# Altium integrated library Lattice ORCA Series 3.IntLib: 93 symbols (part 3 of 14)
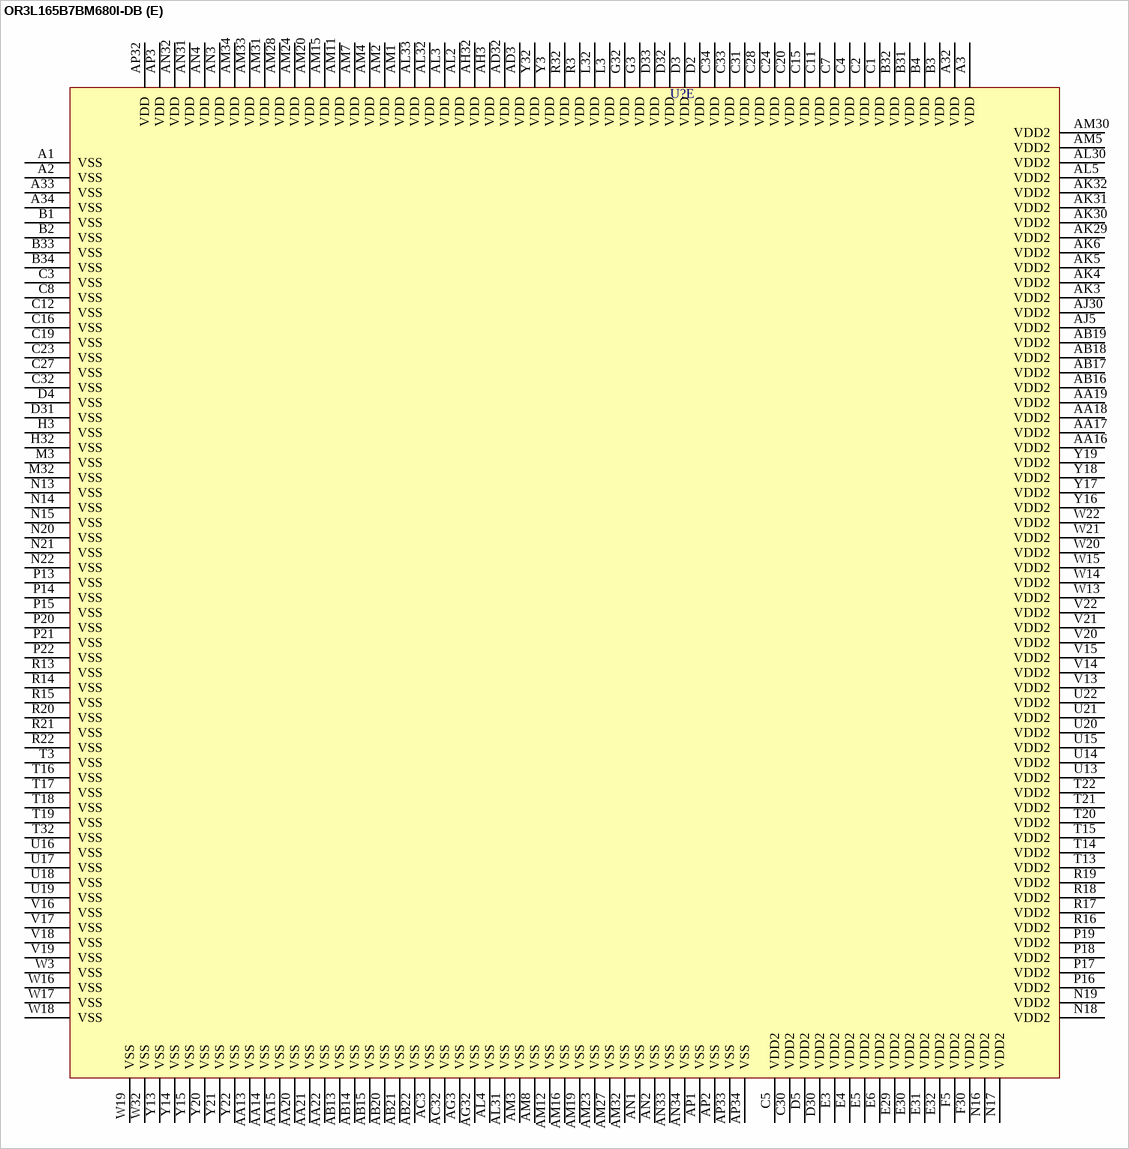
[diagram p138: symbol OR3L165B7BM680I-DB]

## OR3L165B7BM680I-DB
designator U?
ORCA Series 3L FPGA: 2.5 V, Industrial Grade, 516 I/Os.; Published: 21-May-2003; LatestRevisionDate: 13-Apr-2006; LatestRevisionNote: IPC-7351 Footprint Added.; DatasheetVersion: Mar-2002; PackageVersion: pkg_32, Aug-2005; PackageReference: fpBGA680; Publisher: Altium Limited; PackageDescription: 680-Ball Fine Pitch Ball Grid Array (fpBGA680); ComponentLink1Description: Manufacturer Link; ComponentLink1URL: http://www.latticesemi.com/products/fpga/orca/orca3/index.cfm; ComponentLink2Description: Datasheet; ComponentLink2URL: http://www.latticesemi.com/account/_download.cfm?AMID=3971; ComponentLink3Description: Lattice Login; ComponentLink3URL: http://www.latticesemi.com/account/login.cfm
footprint fpBGA680 (BGA, 680-Leads, Body 35x35mm, Pitch 1mm)
3D model OR3L165B-fpBGA680 (680-Ball Fine Pitch Ball Grid Array (fpBGA680))
part A pins: AA1 PL21B (io), AA2 PL21A (io), AA3 PL22D (io), AA4 PL22C (io), AA5 PL22B (io), AB1 PL22A/A11/~{MPI_IRQ} (io), AB2 PL23D/A12 (io), AB3 PL23C (io), AB4 PL23A (io), AB5 PL24D (io), AC1 PL24C (io), AC2 PL24B/A13 (io), AC4 PL24A (io), AC5 PL25D (io), AD1 PL25C (io), AD2 PL25B (io), AD4 PL25A (io), AD5 PL26D (io), AE1 PL26C (io), AE2 PL26B (io), AE3 PL26A (io), AE4 PL27D (io), AE5 PL27C (io), AF1 PL27B (io), AF2 PL27A/A14 (io), AF3 PL28D (io), AF4 PL28C (io), AF5 PL28B (io), AG1 PL28A (io), AG2 PL29C (io), AG4 PL29B (io), AG5 PL29A (io), AH1 PL30D (io), AH2 PL30C (io), AH4 PL30B (io), AH5 PL30A/SECKLL (io), AJ1 PL31D (io), AJ2 PL31C (io), AJ3 PL31A (io), AJ4 PL32C (io), AK1 PL32B (io), AK2 PL32A/A15 (io), D1 PL1D (io), E1 PL1B (io), E2 PL1C (io), F1 PL3D/A0/~{MPI_BE0} (io), F2 PL2A (io), F3 PL2D (io), F4 PL1A (io), G1 PL4D (io), G2 PL3A (io), G4 PL3B (io), G5 PL3C (io), H1 PL5C (io), H2 PL4A (io), H4 PL4B (io), H5 PL4C (io), J1 PL6B (io), J2 PL6C (io), J3 PL6D (io), J4 PL5A (io), J5 PL5B (io), K1 PL7A (io), K2 PL7B (io), K3 PL7C (io), K4 PL7D (io), K5 PL6A (io), L1 PL8A (io), L2 PL8B (io), L4 PL8C (io), L5 PL8D/A1/~{MPI_BE1} (io), M1 PL9A/A2 (io), M2 PL9B (io), M4 PL9C (io), M5 PL9D (io), N1 PL11C (io), N2 PL10A/A3 (io), N3 PL10B (io), N4 PL10C (io), N5 PL10D (io), P1 PL12B (io), P2 PL12C (io), P3 PL12D (io), P4 PL11A (io), P5 PL11B (io), R1 PL13B (io), R2 PL13C (io), R4 PL13D/A5 (io), R5 PL12A/A4 (io), T1 PL14A/A6 (io), T2 PL14B (io), T4 PL14C (io), T5 PL14D (io), U1 PL16A/A7/MPI_CLK (io), U2 PL16C (io), U3 PL15A (io), U4 PL15C (io), U5 ECKL (in), V1 PL17D (io), V2 PL18C (io), V3 PL18A/A8/MPI_RW (io), V4 PL19D/A9/~{MPI_ACK} (io), V5 PL19C (io), W1 PL19B (io), W2 PL19A (io), W4 PL20D (io), W5 PL20C (io), Y1 PL20B (io), Y2 PL20A/A10/~{MPI_BI} (io), Y4 PL21D (io), Y5 PL21C (io)
part B pins: AK7 PB3B (io), AK8 PB4C (io), AK9 PB5C (io), AK10 PB6D (io), AK11 PB8A (io), AK12 PB9A (io), AK13 PB10A (io), AK14 PB11C (io), AK15 PB12D (io), AK16 PB13D (io), AK17 PB14D (io), AK18 PB18D (io), AK19 PB20A (io), AK20 PB21A/HDC (io), AK21 PB22B (io), AK22 PB23D (io), AK23 PB24D (io), AK24 PB25D (io), AK25 PB27A/~{INIT} (io), AK26 PB28C (io), AK27 PB29C (io), AK28 PB30C (io), AL6 PB1D (io), AL7 PB3C (io), AL8 PB4D (io), AL9 PB5D/A17 (io), AL10 PB7A (io), AL11 PB8B (io), AL12 PB9B (io), AL13 PB10B (io), AL14 PB11D (io), AL15 PB13A (io), AL16 PB14A (io), AL17 PB15B (io), AL18 PB18B (io), AL19 PB19D (io), AL20 PB20D (io), AL21 PB22A (io), AL22 PB23C (io), AL23 PB24C (io), AL24 PB25C (io), AL25 PB26D (io), AL26 PB28B (io), AL27 PB29B (io), AL28 PB30B (io), AL29 PB32A (io), AM6 PB2A (io), AM9 PB6A (io), AM10 PB7B (io), AM13 PB10C (io), AM14 PB12A (io), AM17 PB15D (io), AM18 PB17D (io), AM21 PB21D (io), AM22 PB23B (io), AM25 PB26C (io), AM26 PB27D (io), AM29 PB31D (io), AN5 PB1B (io), AN6 PB2D (io), AN7 PB4A (io), AN8 PB5A (io), AN9 PB6B (io), AN10 PB7C (io), AN11 PB8C (io), AN12 PB9C (io), AN13 PB10D (io), AN14 PB12B (io), AN15 PB13B (io), AN16 PB14B (io), AN17 PB16A (io), AN18 ECKB (in), AN19 PB19C (io), AN20 PB20C (io), AN21 PB21C (io), AN22 PB23A/~{LDC} (io), AN23 PB24B (io), AN24 PB25B (io), AN25 PB26B (io), AN26 PB27C (io), AN27 PB29A (io), AN28 PB30A (io), AN29 PB31A (io), AN30 PB32D (io), AP4 PB1A/A16 (io), AP5 PB1C (io), AP6 PB3A (io), AP7 PB4B (io), AP8 PB5B (io), AP9 PB6C (io), AP10 PB7D (io), AP11 PB8D (io), AP12 PB9D (io), AP13 PB11B (io), AP14 PB12C (io), AP15 PB13C (io), AP16 PB14C (io), AP17 PB16B (io), AP18 PB16D (io), AP19 PB19B (io), AP20 PB20B (io), AP21 PB21B (io), AP22 PB22C (io), AP23 PB24A (io), AP24 PB25A (io), AP25 PB26A (io), AP26 PB27B (io), AP27 PB28D (io), AP28 PB29D (io), AP29 PB30D (io), AP30 PB32C (io)
part C pins: AA30 PR22C (io), AA31 PR22D (io), AA32 PR21A (io), AA33 PR21B (io), AA34 PR21C (io), AB30 PR23B (io), AB31 PR23C (io), AB32 PR23D (io), AB33 PR22A/M2 (io), AB34 PR22B (io), AC30 PR24A (io), AC31 PR24B (io), AC33 PR24C (io), AC34 PR23A (io), AD30 PR25A (io), AD31 PR25B (io), AD33 PR25C (io), AD34 PR25D/M1 (io), AE30 PR27D (io), AE31 PR26A (io), AE32 PR26B (io), AE33 PR26C (io), AE34 PR26D (io), AF30 PR28C (io), AF31 PR28D (io), AF32 PR27A (io), AF33 PR27B (io), AF34 PR27C (io), AG30 PR29C (io), AG31 PR29D (io), AG33 PR28A (io), AG34 PR28B (io), AH30 PR30C (io), AH31 PR30D (io), AH33 PR29A (io), AH34 PR29B (io), AJ31 PR32B (io), AJ32 PR31A (io), AJ33 PR31D (io), AJ34 PR30B (io), AK34 PR32A/M0 (io), E33 PR1D (io), E34 PR1B (io), F31 PR1A (io), F32 PR2D (io), F33 PR2B (io), F34 PR2A (io), G30 PR3D (io), G31 PR3C (io), G33 PR3B (io), G34 PR3A (io), H30 PR4D (io), H31 PR4C (io), H33 PR4B (io), H34 PR4A/~{WR} (io), J30 PR5D (io), J31 PR5C (io), J32 PR5B (io), J33 PR6D (io), J34 PR6C (io), K30 PR6B (io), K31 PR6A (io), K32 PR7D (io), K33 PR7C (io), K34 PR7B (io), L30 PR7A (io), L31 PR8D (io), L33 PR8C (io), L34 PR8B (io), M30 PR8A/~{RD}/~{MPI_STRB} (io), M31 PR9D (io), M33 PR9C (io), M34 PR9B (io), N30 PR9A (io), N31 PR10D (io), N32 PR10C (io), N33 PR10B (io), N34 PR10A/~{CS0} (io), P30 PR11C (io), P31 PR11B (io), P32 PR11A (io), P33 PR12D (io), P34 PR12C (io), R30 PR12B (io), R31 PR12A/CS1 (io), R33 PR13D (io), R34 PR13C (io), T30 PR13B (io), T31 PR13A (io), T33 PR14D (io), T34 PR14C (io), U30 PR14B (io), U31 PR15D (io), U32 PR15B (io), U33 PR16D (io), U34 ECKR (in), V30 PR18A (io), V31 PR18B (io), V32 PR18D (io), V33 PR17B (io), V34 PR17D (io), W30 PR20D (io), W31 PR19A (io), W33 PR19B (io), W34 PR19C (io), Y30 PR21D (io), Y31 PR20A/M3 (io), Y33 PR20B (io), Y34 PR20C (io)
part D pins: A4 RD_DATA/TDO (out), A5 PT1C (io), A6 PT2D (io), A7 PT3D (io), A8 PT4D (io), A9 PT6B (io), A10 PT7C (io), A11 PT8C (io), A12 PT9C (io), A13 PT11A/DOUT (io), A14 PT12B (io), A15 PT13B (io), A16 PT14B (io), A17 PT16D (io), A18 PT17A/D3 (io), A19 PT19B (io), A20 PT20B (io), A21 PT21B (io), A22 PT22D (io), A23 PT24A (io), A24 PT25A (io), A25 PT26A (io), A26 PT27C (io), A27 PT28D (io), A28 PT29D (io), A29 PT30D (io), A30 PT32A (io), A31 PT32D/SECKUR (io), AK33 ~{PRGM} (in), AL1 CCLK (io), AL34 ~{RESET} (in), AP31 DONE (io), B5 PT1A/TCK (io), B6 PT2C (io), B7 PT3C (io), B8 PT4C (io), B9 PT5D (io), B10 PT7B (io), B11 PT8B (io), B12 PT9B (io), B13 PT10C (io), B14 PT12A (io), B15 PT13A/D0/DIN (io), B16 PT14A (io), B17 PT16C (io), B18 PT17C (io), B19 PT19C (io), B20 PT20C (io), B21 PT21C (io), B22 PT23A (io), B23 PT24B (io), B24 PT25B (io), B25 PT26B (io), B26 PT27D/D7 (io), B27 PT29A (io), B28 PT30A/RDY/RCLK/MPI_ALE (io), B29 PT31A (io), B30 PT32C (io), C6 PT2A (io), C9 PT5C (io), C10 PT7A/TDI (io), C13 PT10B (io), C14 PT11D (io), C17 PT15A/D2 (io), C18 PT17D (io), C21 PT22A (io), C22 PT23B (io), C25 PT26C (io), C26 PT28A (io), C29 PT31B (io), D6 PT1D (io), D7 PT3B (io), D8 PT4B (io), D9 PT5B (io), D10 PT6D (io), D11 PT8A (io), D12 PT9A (io), D13 PT10A (io), D14 PT11C (io), D15 PT12D (io), D16 PT13D (io), D17 PT14D/D1 (io), D18 ECKT (in), D19 PT19D (io), D20 PT20D (io), D21 PT22B (io), D22 PT23C (io), D23 PT24C (io), D24 PT25C (io), D25 PT27A (io), D26 PT28B (io), D27 PT29B (io), D28 PT30B (io), D29 PT31D (io), D34 ~{RD_CFG} (in), E7 PT3A (io), E8 PT4A (io), E9 PT5A/TMS (io), E10 PT6C (io), E11 PT7D (io), E12 PT8D (io), E13 PT9D (io), E14 PT11B (io), E15 PT12C (io), E16 PT13C (io), E17 PT14C (io), E18 PT19A/D4 (io), E19 PT20A (io), E20 PT21A/D5 (io), E21 PT22C (io), E22 PT23D/D6 (io), E23 PT24D (io), E24 PT25D (io), E25 PT27B (io), E26 PT28C (io), E27 PT29C (io), E28 PT30C (io)
part E pins: A1 VSS (power), A2 VSS (power), A3 VDD (power), A32 VDD (power), A33 VSS (power), A34 VSS (power), AA13 VSS (power), AA14 VSS (power), AA15 VSS (power), AA16 VDD2 (power), AA17 VDD2 (power), AA18 VDD2 (power), AA19 VDD2 (power), AA20 VSS (power), AA21 VSS (power), AA22 VSS (power), AB13 VSS (power), AB14 VSS (power), AB15 VSS (power), AB16 VDD2 (power), AB17 VDD2 (power), AB18 VDD2 (power), AB19 VDD2 (power), AB20 VSS (power), AB21 VSS (power), AB22 VSS (power), AC3 VSS (power), AC32 VSS (power), AD3 VDD (power), AD32 VDD (power), AG3 VSS (power), AG32 VSS (power), AH3 VDD (power), AH32 VDD (power), AJ5 VDD2 (power), AJ30 VDD2 (power), AK3 VDD2 (power), AK4 VDD2 (power), AK5 VDD2 (power), AK6 VDD2 (power), AK29 VDD2 (power), AK30 VDD2 (power), AK31 VDD2 (power), AK32 VDD2 (power), AL2 VDD (power), AL3 VDD (power), AL4 VSS (power), AL5 VDD2 (power), AL30 VDD2 (power), AL31 VSS (power), AL32 VDD (power), AL33 VDD (power), AM1 VDD (power), AM2 VDD (power), AM3 VSS (power), AM4 VDD (power), AM5 VDD2 (power), AM7 VDD (power), AM8 VSS (power), AM11 VDD (power), AM12 VSS (power), AM15 VDD (power), AM16 VSS (power), AM19 VSS (power), AM20 VDD (power), AM23 VSS (power), AM24 VDD (power), AM27 VSS (power), AM28 VDD (power), AM30 VDD2 (power), AM31 VDD (power), AM32 VSS (power), AM33 VDD (power), AM34 VDD (power), AN1 VSS (power), AN2 VSS (power), AN3 VDD (power), AN4 VDD (power), AN31 VDD (power), AN32 VDD (power), AN33 VSS (power), AN34 VSS (power), AP1 VSS (power), AP2 VSS (power), AP3 VDD (power), AP32 VDD (power), AP33 VSS (power), AP34 VSS (power), B1 VSS (power), B2 VSS (power), B3 VDD (power), B4 VDD (power), B31 VDD (power), B32 VDD (power), B33 VSS (power), B34 VSS (power), C1 VDD (power), C2 VDD (power), C3 VSS (power), C4 VDD (power), C5 VDD2 (power), C7 VDD (power), C8 VSS (power), C11 VDD (power), C12 VSS (power), C15 VDD (power), C16 VSS (power), C19 VSS (power), C20 VDD (power), C23 VSS (power), C24 VDD (power), C27 VSS (power), C28 VDD (power), C30 VDD2 (power), C31 VDD (power), C32 VSS (power), C33 VDD (power), C34 VDD (power), D2 VDD (power), D3 VDD (power), D4 VSS (power), D5 VDD2 (power), D30 VDD2 (power), D31 VSS (power), D32 VDD (power), D33 VDD (power), E3 VDD2 (power), E4 VDD2 (power), E5 VDD2 (power), E6 VDD2 (power), E29 VDD2 (power), E30 VDD2 (power), E31 VDD2 (power), E32 VDD2 (power), F5 VDD2 (power), F30 VDD2 (power), G3 VDD (power), G32 VDD (power), H3 VSS (power), H32 VSS (power), L3 VDD (power), L32 VDD (power), M3 VSS (power), M32 VSS (power), N13 VSS (power), N14 VSS (power), N15 VSS (power), N16 VDD2 (power), N17 VDD2 (power), N18 VDD2 (power), N19 VDD2 (power), N20 VSS (power), N21 VSS (power), N22 VSS (power), P13 VSS (power), P14 VSS (power), P15 VSS (power), P16 VDD2 (power), P17 VDD2 (power), P18 VDD2 (power), P19 VDD2 (power), P20 VSS (power), P21 VSS (power), P22 VSS (power), R3 VDD (power), R13 VSS (power), R14 VSS (power), R15 VSS (power), R16 VDD2 (power), R17 VDD2 (power), R18 VDD2 (power), R19 VDD2 (power), R20 VSS (power), R21 VSS (power), R22 VSS (power), R32 VDD (power), T3 VSS (power), T13 VDD2 (power), T14 VDD2 (power), T15 VDD2 (power), T16 VSS (power), T17 VSS (power), T18 VSS (power), T19 VSS (power), T20 VDD2 (power), T21 VDD2 (power), T22 VDD2 (power), T32 VSS (power), U13 VDD2 (power), U14 VDD2 (power), U15 VDD2 (power), U16 VSS (power), U17 VSS (power), U18 VSS (power), U19 VSS (power), U20 VDD2 (power), U21 VDD2 (power), U22 VDD2 (power), V13 VDD2 (power), V14 VDD2 (power), V15 VDD2 (power), V16 VSS (power), V17 VSS (power), V18 VSS (power), V19 VSS (power), V20 VDD2 (power), V21 VDD2 (power), V22 VDD2 (power), W3 VSS (power), W13 VDD2 (power), W14 VDD2 (power), W15 VDD2 (power), W16 VSS (power), W17 VSS (power), W18 VSS (power), W19 VSS (power), W20 VDD2 (power), W21 VDD2 (power), W22 VDD2 (power), W32 VSS (power), Y3 VDD (power), Y13 VSS (power), Y14 VSS (power), Y15 VSS (power), Y16 VDD2 (power), Y17 VDD2 (power), Y18 VDD2 (power), Y19 VDD2 (power), Y20 VSS (power), Y21 VSS (power), Y22 VSS (power), Y32 VDD (power)

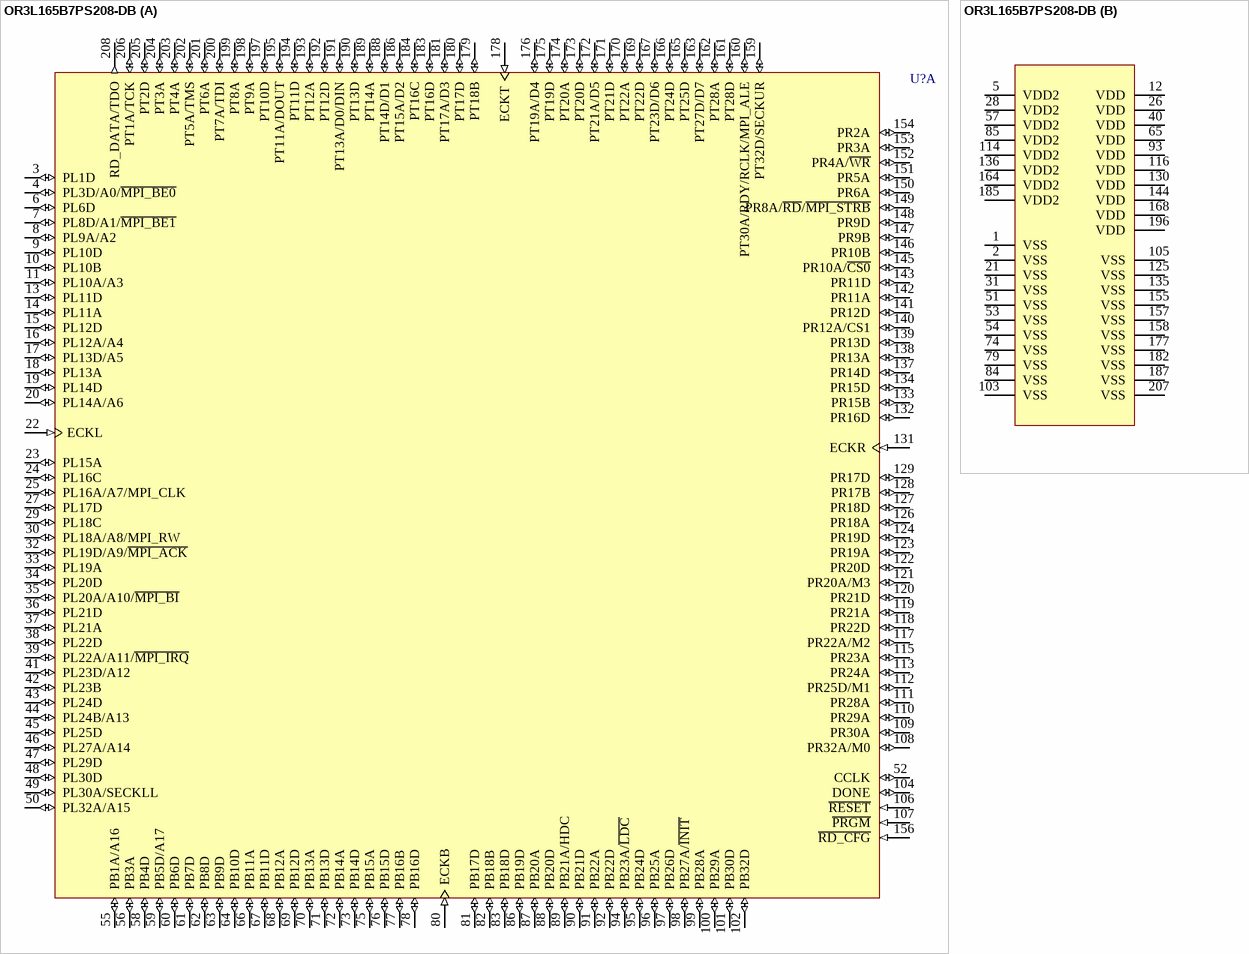
[diagram p26: symbol OR3L165B7PS208-DB]

## OR3L165B7PS208-DB
designator U?
ORCA Series 3L FPGA: 2.5 V, Commercial Grade, 516 I/Os.; Published: 21-May-2003; LatestRevisionDate: 13-Apr-2006; LatestRevisionNote: IPC-7351 Footprint Added.; DatasheetVersion: Mar-2002; PackageVersion: pkg_32, Aug-2005; PackageReference: PQFP208; Publisher: Altium Limited; PackageDescription: 208-Pin Plastic Quad Flat Pack (PQFP208); Code_JEDEC: MO-143-FAI; ComponentLink1Description: Manufacturer Link; ComponentLink1URL: http://www.latticesemi.com/products/fpga/orca/orca3/index.cfm; ComponentLink2Description: Datasheet; ComponentLink2URL: http://www.latticesemi.com/account/_download.cfm?AMID=3971; ComponentLink3Description: Lattice Login; ComponentLink3URL: http://www.latticesemi.com/account/login.cfm
footprint PQFP208_N (Shrink QFP, 208-Leads, Body 28x28mm, Pitch 0.5mm, IPC Medium Density)
footprint PQFP208_L (Shrink QFP, 208-Leads, Body 28x28mm, Pitch 0.5mm, IPC High Density)
footprint PQFP208_M (Shrink QFP, 208-Leads, Body 28x28mm, Pitch 0.5mm, IPC Low Density)
3D model OR3L165B-PQFP208 (208-Pin Plastic Quad Flat Pack (PQFP208))
part A pins: 3 PL1D (io), 4 PL3D/A0/~{MPI_BE0} (io), 6 PL6D (io), 7 PL8D/A1/~{MPI_BE1} (io), 8 PL9A/A2 (io), 9 PL10D (io), 10 PL10B (io), 11 PL10A/A3 (io), 13 PL11D (io), 14 PL11A (io), 15 PL12D (io), 16 PL12A/A4 (io), 17 PL13D/A5 (io), 18 PL13A (io), 19 PL14D (io), 20 PL14A/A6 (io), 22 ECKL (in), 23 PL15A (io), 24 PL16C (io), 25 PL16A/A7/MPI_CLK (io), 27 PL17D (io), 29 PL18C (io), 30 PL18A/A8/MPI_RW (io), 32 PL19D/A9/~{MPI_ACK} (io), 33 PL19A (io), 34 PL20D (io), 35 PL20A/A10/~{MPI_BI} (io), 36 PL21D (io), 37 PL21A (io), 38 PL22D (io), 39 PL22A/A11/~{MPI_IRQ} (io), 41 PL23D/A12 (io), 42 PL23B (io), 43 PL24D (io), 44 PL24B/A13 (io), 45 PL25D (io), 46 PL27A/A14 (io), 47 PL29D (io), 48 PL30D (io), 49 PL30A/SECKLL (io), 50 PL32A/A15 (io), 52 CCLK (io), 55 PB1A/A16 (io), 56 PB3A (io), 58 PB4D (io), 59 PB5D/A17 (io), 60 PB6D (io), 61 PB7D (io), 62 PB8D (io), 63 PB9D (io), 64 PB10D (io), 66 PB11A (io), 67 PB11D (io), 68 PB12A (io), 69 PB12D (io), 70 PB13A (io), 71 PB13D (io), 72 PB14A (io), 73 PB14D (io), 75 PB15A (io), 76 PB15D (io), 77 PB16B (io), 78 PB16D (io), 80 ECKB (in), 81 PB17D (io), 82 PB18B (io), 83 PB18D (io), 86 PB19D (io), 87 PB20A (io), 88 PB20D (io), 89 PB21A/HDC (io), 90 PB21D (io), 91 PB22A (io), 92 PB22D (io), 94 PB23A/~{LDC} (io), 95 PB24D (io), 96 PB25A (io), 97 PB26D (io), 98 PB27A/~{INIT} (io), 99 PB28A (io), 100 PB29A (io), 101 PB30D (io), 102 PB32D (io), 104 DONE (io), 106 ~{RESET} (in), 107 ~{PRGM} (in), 108 PR32A/M0 (io), 109 PR30A (io), 110 PR29A (io), 111 PR28A (io), 112 PR25D/M1 (io), 113 PR24A (io), 115 PR23A (io), 117 PR22A/M2 (io), 118 PR22D (io), 119 PR21A (io), 120 PR21D (io), 121 PR20A/M3 (io), 122 PR20D (io), 123 PR19A (io), 124 PR19D (io), 126 PR18A (io), 127 PR18D (io), 128 PR17B (io), 129 PR17D (io), 131 ECKR (in), 132 PR16D (io), 133 PR15B (io), 134 PR15D (io), 137 PR14D (io), 138 PR13A (io), 139 PR13D (io), 140 PR12A/CS1 (io), 141 PR12D (io), 142 PR11A (io), 143 PR11D (io), 145 PR10A/~{CS0} (io), 146 PR10B (io), 147 PR9B (io), 148 PR9D (io), 149 PR8A/~{RD}/~{MPI_STRB} (io), 150 PR6A (io), 151 PR5A (io), 152 PR4A/~{WR} (io), 153 PR3A (io), 154 PR2A (io), 156 ~{RD_CFG} (in), 159 PT32D/SECKUR (io), 160 PT30A/RDY/RCLK/MPI_ALE (io), 161 PT28D (io), 162 PT28A (io), 163 PT27D/D7 (io), 165 PT25D (io), 166 PT24D (io), 167 PT23D/D6 (io), 169 PT22D (io), 170 PT22A (io), 171 PT21D (io), 172 PT21A/D5 (io), 173 PT20D (io), 174 PT20A (io), 175 PT19D (io), 176 PT19A/D4 (io), 178 ECKT (in), 179 PT18B (io), 180 PT17D (io), 181 PT17A/D3 (io), 183 PT16D (io), 184 PT16C (io), 186 PT15A/D2 (io), 188 PT14D/D1 (io), 189 PT14A (io), 190 PT13D (io), 191 PT13A/D0/DIN (io), 192 PT12D (io), 193 PT12A (io), 194 PT11D (io), 195 PT11A/DOUT (io), 197 PT10D (io), 198 PT9A (io), 199 PT8A (io), 200 PT7A/TDI (io), 201 PT6A (io), 202 PT5A/TMS (io), 203 PT4A (io), 204 PT3A (io), 205 PT2D (io), 206 PT1A/TCK (io), 208 RD_DATA/TDO (out)
part B pins: 1 VSS (power), 2 VSS (power), 5 VDD2 (power), 12 VDD (power), 21 VSS (power), 26 VDD (power), 28 VDD2 (power), 31 VSS (power), 40 VDD (power), 51 VSS (power), 53 VSS (power), 54 VSS (power), 57 VDD2 (power), 65 VDD (power), 74 VSS (power), 79 VSS (power), 84 VSS (power), 85 VDD2 (power), 93 VDD (power), 103 VSS (power), 105 VSS (power), 114 VDD2 (power), 116 VDD (power), 125 VSS (power), 130 VDD (power), 135 VSS (power), 136 VDD2 (power), 144 VDD (power), 155 VSS (power), 157 VSS (power), 158 VSS (power), 164 VDD2 (power), 168 VDD (power), 177 VSS (power), 182 VSS (power), 185 VDD2 (power), 187 VSS (power), 196 VDD (power), 207 VSS (power)

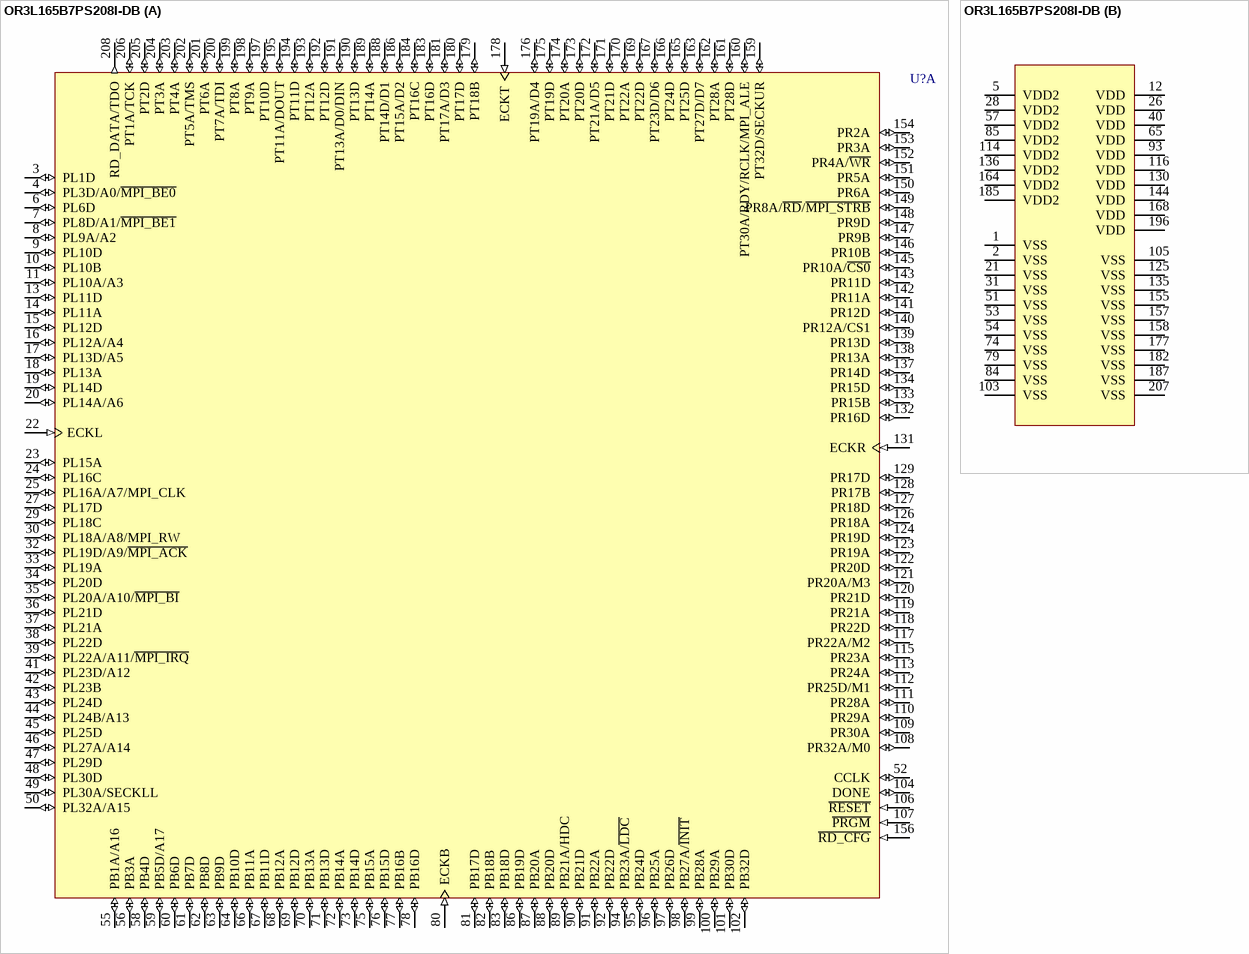
[diagram p27: symbol OR3L165B7PS208I-DB]

## OR3L165B7PS208I-DB
designator U?
ORCA Series 3L FPGA: 2.5 V, Industrial Grade, 516 I/Os.; Published: 21-May-2003; LatestRevisionDate: 13-Apr-2006; LatestRevisionNote: IPC-7351 Footprint Added.; DatasheetVersion: Mar-2002; PackageVersion: pkg_32, Aug-2005; PackageReference: PQFP208; Publisher: Altium Limited; PackageDescription: 208-Pin Plastic Quad Flat Pack (PQFP208); Code_JEDEC: MO-143-FAI; ComponentLink1Description: Manufacturer Link; ComponentLink1URL: http://www.latticesemi.com/products/fpga/orca/orca3/index.cfm; ComponentLink2Description: Datasheet; ComponentLink2URL: http://www.latticesemi.com/account/_download.cfm?AMID=3971; ComponentLink3Description: Lattice Login; ComponentLink3URL: http://www.latticesemi.com/account/login.cfm
footprint PQFP208_N (Shrink QFP, 208-Leads, Body 28x28mm, Pitch 0.5mm, IPC Medium Density)
footprint PQFP208_L (Shrink QFP, 208-Leads, Body 28x28mm, Pitch 0.5mm, IPC High Density)
footprint PQFP208_M (Shrink QFP, 208-Leads, Body 28x28mm, Pitch 0.5mm, IPC Low Density)
3D model OR3L165B-PQFP208 (208-Pin Plastic Quad Flat Pack (PQFP208))
part A pins: 3 PL1D (io), 4 PL3D/A0/~{MPI_BE0} (io), 6 PL6D (io), 7 PL8D/A1/~{MPI_BE1} (io), 8 PL9A/A2 (io), 9 PL10D (io), 10 PL10B (io), 11 PL10A/A3 (io), 13 PL11D (io), 14 PL11A (io), 15 PL12D (io), 16 PL12A/A4 (io), 17 PL13D/A5 (io), 18 PL13A (io), 19 PL14D (io), 20 PL14A/A6 (io), 22 ECKL (in), 23 PL15A (io), 24 PL16C (io), 25 PL16A/A7/MPI_CLK (io), 27 PL17D (io), 29 PL18C (io), 30 PL18A/A8/MPI_RW (io), 32 PL19D/A9/~{MPI_ACK} (io), 33 PL19A (io), 34 PL20D (io), 35 PL20A/A10/~{MPI_BI} (io), 36 PL21D (io), 37 PL21A (io), 38 PL22D (io), 39 PL22A/A11/~{MPI_IRQ} (io), 41 PL23D/A12 (io), 42 PL23B (io), 43 PL24D (io), 44 PL24B/A13 (io), 45 PL25D (io), 46 PL27A/A14 (io), 47 PL29D (io), 48 PL30D (io), 49 PL30A/SECKLL (io), 50 PL32A/A15 (io), 52 CCLK (io), 55 PB1A/A16 (io), 56 PB3A (io), 58 PB4D (io), 59 PB5D/A17 (io), 60 PB6D (io), 61 PB7D (io), 62 PB8D (io), 63 PB9D (io), 64 PB10D (io), 66 PB11A (io), 67 PB11D (io), 68 PB12A (io), 69 PB12D (io), 70 PB13A (io), 71 PB13D (io), 72 PB14A (io), 73 PB14D (io), 75 PB15A (io), 76 PB15D (io), 77 PB16B (io), 78 PB16D (io), 80 ECKB (in), 81 PB17D (io), 82 PB18B (io), 83 PB18D (io), 86 PB19D (io), 87 PB20A (io), 88 PB20D (io), 89 PB21A/HDC (io), 90 PB21D (io), 91 PB22A (io), 92 PB22D (io), 94 PB23A/~{LDC} (io), 95 PB24D (io), 96 PB25A (io), 97 PB26D (io), 98 PB27A/~{INIT} (io), 99 PB28A (io), 100 PB29A (io), 101 PB30D (io), 102 PB32D (io), 104 DONE (io), 106 ~{RESET} (in), 107 ~{PRGM} (in), 108 PR32A/M0 (io), 109 PR30A (io), 110 PR29A (io), 111 PR28A (io), 112 PR25D/M1 (io), 113 PR24A (io), 115 PR23A (io), 117 PR22A/M2 (io), 118 PR22D (io), 119 PR21A (io), 120 PR21D (io), 121 PR20A/M3 (io), 122 PR20D (io), 123 PR19A (io), 124 PR19D (io), 126 PR18A (io), 127 PR18D (io), 128 PR17B (io), 129 PR17D (io), 131 ECKR (in), 132 PR16D (io), 133 PR15B (io), 134 PR15D (io), 137 PR14D (io), 138 PR13A (io), 139 PR13D (io), 140 PR12A/CS1 (io), 141 PR12D (io), 142 PR11A (io), 143 PR11D (io), 145 PR10A/~{CS0} (io), 146 PR10B (io), 147 PR9B (io), 148 PR9D (io), 149 PR8A/~{RD}/~{MPI_STRB} (io), 150 PR6A (io), 151 PR5A (io), 152 PR4A/~{WR} (io), 153 PR3A (io), 154 PR2A (io), 156 ~{RD_CFG} (in), 159 PT32D/SECKUR (io), 160 PT30A/RDY/RCLK/MPI_ALE (io), 161 PT28D (io), 162 PT28A (io), 163 PT27D/D7 (io), 165 PT25D (io), 166 PT24D (io), 167 PT23D/D6 (io), 169 PT22D (io), 170 PT22A (io), 171 PT21D (io), 172 PT21A/D5 (io), 173 PT20D (io), 174 PT20A (io), 175 PT19D (io), 176 PT19A/D4 (io), 178 ECKT (in), 179 PT18B (io), 180 PT17D (io), 181 PT17A/D3 (io), 183 PT16D (io), 184 PT16C (io), 186 PT15A/D2 (io), 188 PT14D/D1 (io), 189 PT14A (io), 190 PT13D (io), 191 PT13A/D0/DIN (io), 192 PT12D (io), 193 PT12A (io), 194 PT11D (io), 195 PT11A/DOUT (io), 197 PT10D (io), 198 PT9A (io), 199 PT8A (io), 200 PT7A/TDI (io), 201 PT6A (io), 202 PT5A/TMS (io), 203 PT4A (io), 204 PT3A (io), 205 PT2D (io), 206 PT1A/TCK (io), 208 RD_DATA/TDO (out)
part B pins: 1 VSS (power), 2 VSS (power), 5 VDD2 (power), 12 VDD (power), 21 VSS (power), 26 VDD (power), 28 VDD2 (power), 31 VSS (power), 40 VDD (power), 51 VSS (power), 53 VSS (power), 54 VSS (power), 57 VDD2 (power), 65 VDD (power), 74 VSS (power), 79 VSS (power), 84 VSS (power), 85 VDD2 (power), 93 VDD (power), 103 VSS (power), 105 VSS (power), 114 VDD2 (power), 116 VDD (power), 125 VSS (power), 130 VDD (power), 135 VSS (power), 136 VDD2 (power), 144 VDD (power), 155 VSS (power), 157 VSS (power), 158 VSS (power), 164 VDD2 (power), 168 VDD (power), 177 VSS (power), 182 VSS (power), 185 VDD2 (power), 187 VSS (power), 196 VDD (power), 207 VSS (power)

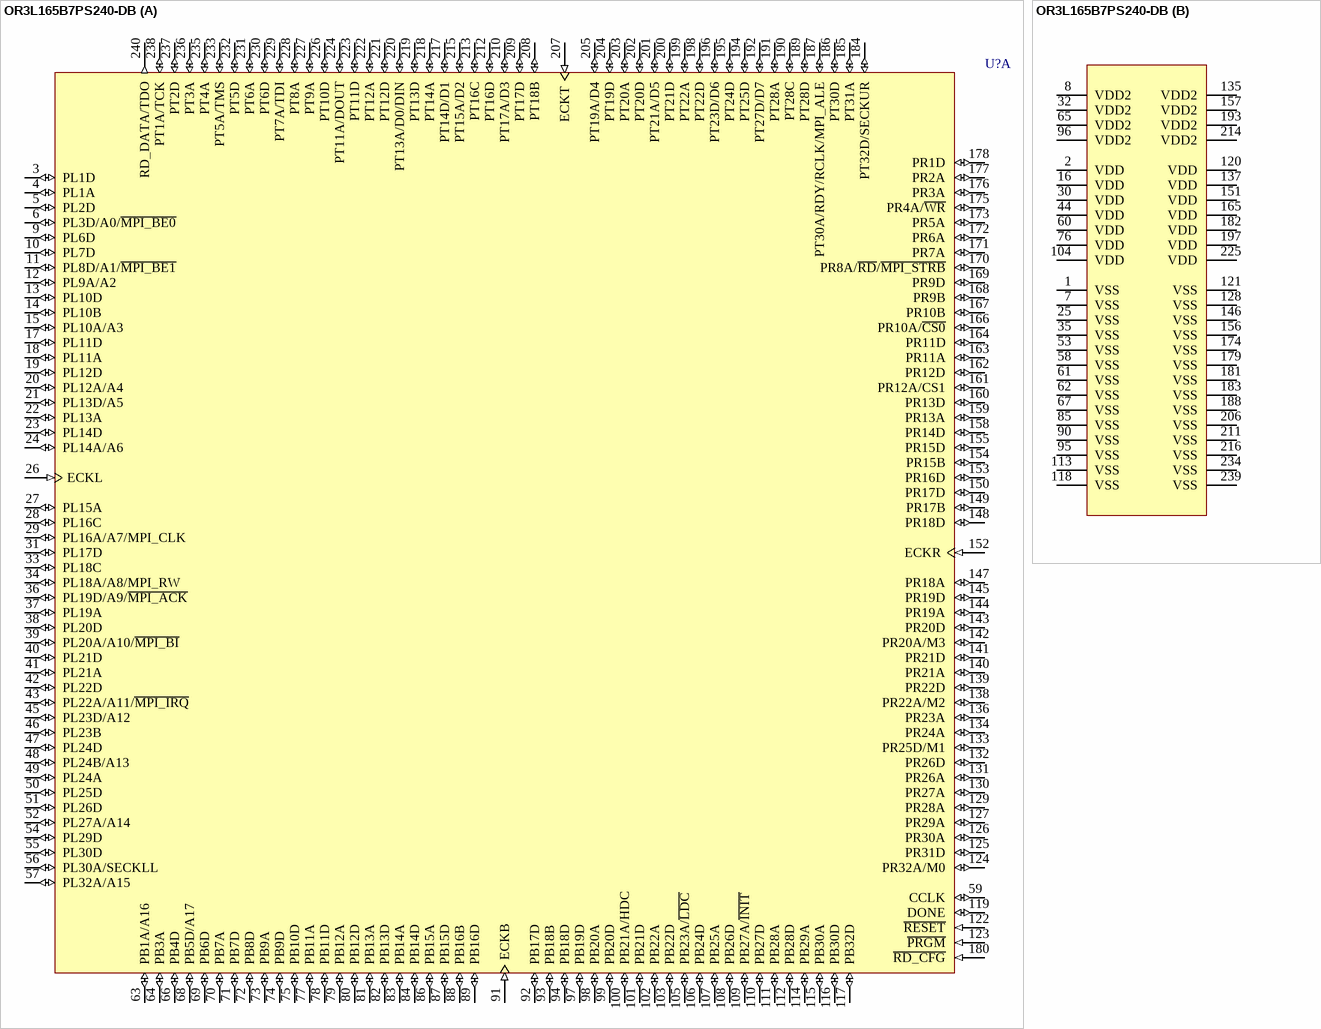
[diagram p28: symbol OR3L165B7PS240-DB]

## OR3L165B7PS240-DB
designator U?
ORCA Series 3L FPGA: 2.5 V, Commercial Grade, 516 I/Os.; Published: 21-May-2003; LatestRevisionDate: 13-Apr-2006; LatestRevisionNote: IPC-7351 Footprint Added.; DatasheetVersion: Mar-2002; PackageVersion: pkg_32, Aug-2005; PackageReference: PQFP240; Publisher: Altium Limited; PackageDescription: 240-Pin Shrink Quad Flat Pack 0.5 mm Pitch; ComponentLink1Description: Manufacturer Link; ComponentLink1URL: http://www.latticesemi.com/products/fpga/orca/orca3/index.cfm; ComponentLink2Description: Datasheet; ComponentLink2URL: http://www.latticesemi.com/account/_download.cfm?AMID=3971; ComponentLink3Description: Lattice Login; ComponentLink3URL: http://www.latticesemi.com/account/login.cfm
footprint PQFP240_N (Shrink QFP, 240-Leads, Body 32x32mm, Pitch 0.5mm, IPC Medium Density)
footprint PQFP240_L (Shrink QFP, 240-Leads, Body 32x32mm, Pitch 0.5mm, IPC High Density)
footprint PQFP240_M (Shrink QFP, 240-Leads, Body 32x32mm, Pitch 0.5mm, IPC Low Density)
3D model OR3L165B-PQFP240 (240-Pin Shrink Quad Flat Pack 0.5 mm Pitch)
part A pins: 3 PL1D (io), 4 PL1A (io), 5 PL2D (io), 6 PL3D/A0/~{MPI_BE0} (io), 9 PL6D (io), 10 PL7D (io), 11 PL8D/A1/~{MPI_BE1} (io), 12 PL9A/A2 (io), 13 PL10D (io), 14 PL10B (io), 15 PL10A/A3 (io), 17 PL11D (io), 18 PL11A (io), 19 PL12D (io), 20 PL12A/A4 (io), 21 PL13D/A5 (io), 22 PL13A (io), 23 PL14D (io), 24 PL14A/A6 (io), 26 ECKL (in), 27 PL15A (io), 28 PL16C (io), 29 PL16A/A7/MPI_CLK (io), 31 PL17D (io), 33 PL18C (io), 34 PL18A/A8/MPI_RW (io), 36 PL19D/A9/~{MPI_ACK} (io), 37 PL19A (io), 38 PL20D (io), 39 PL20A/A10/~{MPI_BI} (io), 40 PL21D (io), 41 PL21A (io), 42 PL22D (io), 43 PL22A/A11/~{MPI_IRQ} (io), 45 PL23D/A12 (io), 46 PL23B (io), 47 PL24D (io), 48 PL24B/A13 (io), 49 PL24A (io), 50 PL25D (io), 51 PL26D (io), 52 PL27A/A14 (io), 54 PL29D (io), 55 PL30D (io), 56 PL30A/SECKLL (io), 57 PL32A/A15 (io), 59 CCLK (io), 63 PB1A/A16 (io), 64 PB3A (io), 66 PB4D (io), 68 PB5D/A17 (io), 69 PB6D (io), 70 PB7A (io), 71 PB7D (io), 72 PB8D (io), 73 PB9A (io), 74 PB9D (io), 75 PB10D (io), 77 PB11A (io), 78 PB11D (io), 79 PB12A (io), 80 PB12D (io), 81 PB13A (io), 82 PB13D (io), 83 PB14A (io), 84 PB14D (io), 86 PB15A (io), 87 PB15D (io), 88 PB16B (io), 89 PB16D (io), 91 ECKB (in), 92 PB17D (io), 93 PB18B (io), 94 PB18D (io), 97 PB19D (io), 98 PB20A (io), 99 PB20D (io), 100 PB21A/HDC (io), 101 PB21D (io), 102 PB22A (io), 103 PB22D (io), 105 PB23A/~{LDC} (io), 106 PB24D (io), 107 PB25A (io), 108 PB26D (io), 109 PB27A/~{INIT} (io), 110 PB27D (io), 111 PB28A (io), 112 PB28D (io), 114 PB29A (io), 115 PB30A (io), 116 PB30D (io), 117 PB32D (io), 119 DONE (io), 122 ~{RESET} (in), 123 ~{PRGM} (in), 124 PR32A/M0 (io), 125 PR31D (io), 126 PR30A (io), 127 PR29A (io), 129 PR28A (io), 130 PR27A (io), 131 PR26A (io), 132 PR26D (io), 133 PR25D/M1 (io), 134 PR24A (io), 136 PR23A (io), 138 PR22A/M2 (io), 139 PR22D (io), 140 PR21A (io), 141 PR21D (io), 142 PR20A/M3 (io), 143 PR20D (io), 144 PR19A (io), 145 PR19D (io), 147 PR18A (io), 148 PR18D (io), 149 PR17B (io), 150 PR17D (io), 152 ECKR (in), 153 PR16D (io), 154 PR15B (io), 155 PR15D (io), 158 PR14D (io), 159 PR13A (io), 160 PR13D (io), 161 PR12A/CS1 (io), 162 PR12D (io), 163 PR11A (io), 164 PR11D (io), 166 PR10A/~{CS0} (io), 167 PR10B (io), 168 PR9B (io), 169 PR9D (io), 170 PR8A/~{RD}/~{MPI_STRB} (io), 171 PR7A (io), 172 PR6A (io), 173 PR5A (io), 175 PR4A/~{WR} (io), 176 PR3A (io), 177 PR2A (io), 178 PR1D (io), 180 ~{RD_CFG} (in), 184 PT32D/SECKUR (io), 185 PT31A (io), 186 PT30D (io), 187 PT30A/RDY/RCLK/MPI_ALE (io), 189 PT28D (io), 190 PT28C (io), 191 PT28A (io), 192 PT27D/D7 (io), 194 PT25D (io), 195 PT24D (io), 196 PT23D/D6 (io), 198 PT22D (io), 199 PT22A (io), 200 PT21D (io), 201 PT21A/D5 (io), 202 PT20D (io), 203 PT20A (io), 204 PT19D (io), 205 PT19A/D4 (io), 207 ECKT (in), 208 PT18B (io), 209 PT17D (io), 210 PT17A/D3 (io), 212 PT16D (io), 213 PT16C (io), 215 PT15A/D2 (io), 217 PT14D/D1 (io), 218 PT14A (io), 219 PT13D (io), 220 PT13A/D0/DIN (io), 221 PT12D (io), 222 PT12A (io), 223 PT11D (io), 224 PT11A/DOUT (io), 226 PT10D (io), 227 PT9A (io), 228 PT8A (io), 229 PT7A/TDI (io), 230 PT6D (io), 231 PT6A (io), 232 PT5D (io), 233 PT5A/TMS (io), 235 PT4A (io), 236 PT3A (io), 237 PT2D (io), 238 PT1A/TCK (io), 240 RD_DATA/TDO (out)
part B pins: 1 VSS (power), 2 VDD (power), 7 VSS (power), 8 VDD2 (power), 16 VDD (power), 25 VSS (power), 30 VDD (power), 32 VDD2 (power), 35 VSS (power), 44 VDD (power), 53 VSS (power), 58 VSS (power), 60 VDD (power), 61 VSS (power), 62 VSS (power), 65 VDD2 (power), 67 VSS (power), 76 VDD (power), 85 VSS (power), 90 VSS (power), 95 VSS (power), 96 VDD2 (power), 104 VDD (power), 113 VSS (power), 118 VSS (power), 120 VDD (power), 121 VSS (power), 128 VSS (power), 135 VDD2 (power), 137 VDD (power), 146 VSS (power), 151 VDD (power), 156 VSS (power), 157 VDD2 (power), 165 VDD (power), 174 VSS (power), 179 VSS (power), 181 VSS (power), 182 VDD (power), 183 VSS (power), 188 VSS (power), 193 VDD2 (power), 197 VDD (power), 206 VSS (power), 211 VSS (power), 214 VDD2 (power), 216 VSS (power), 225 VDD (power), 234 VSS (power), 239 VSS (power)

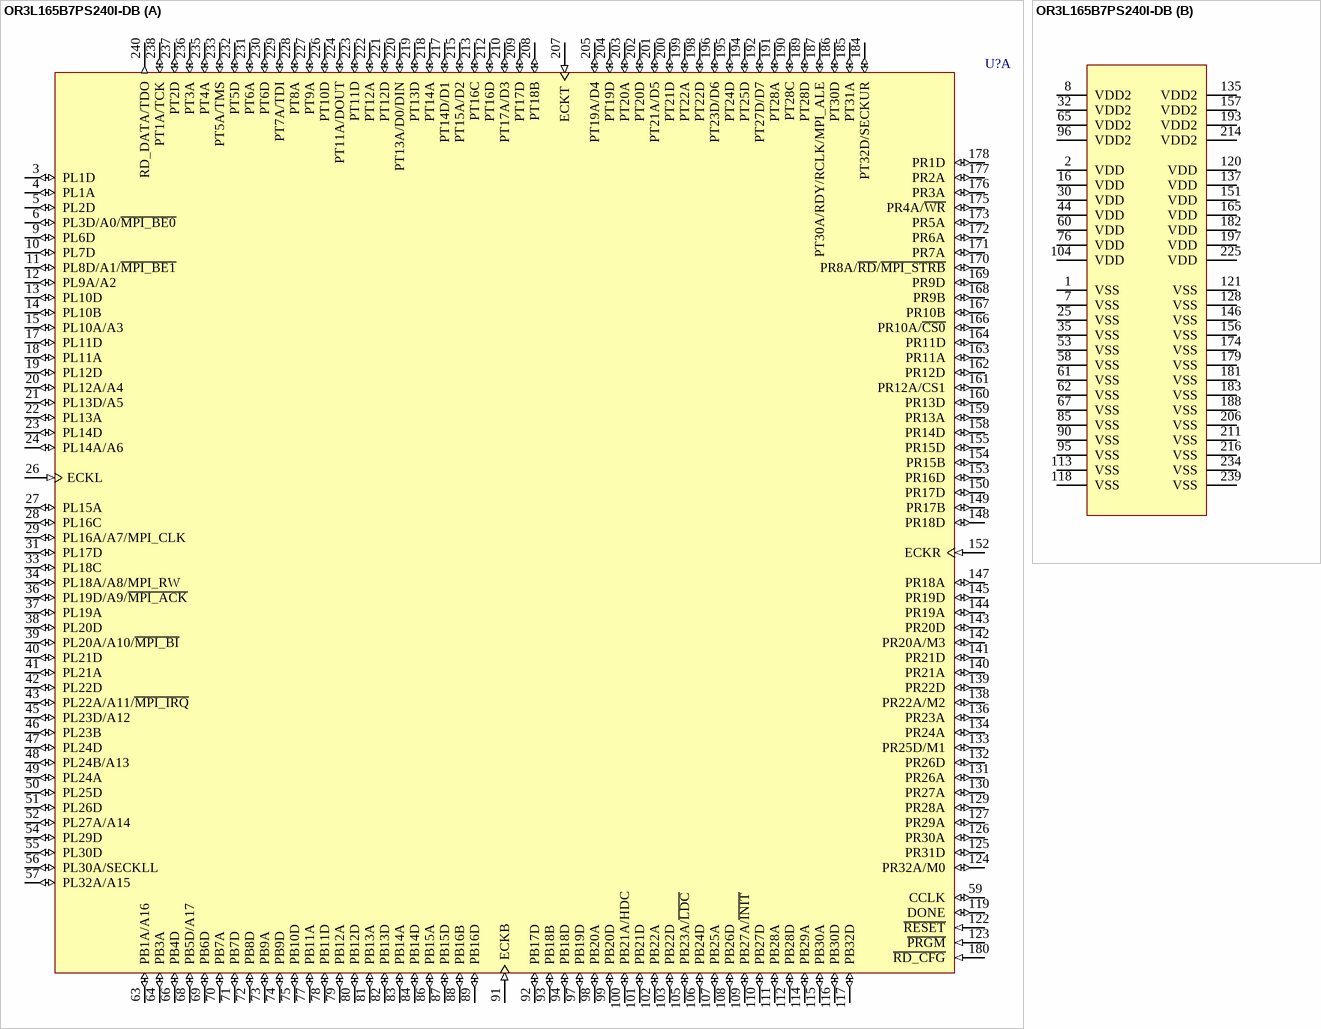
[diagram p29: symbol OR3L165B7PS240I-DB]

## OR3L165B7PS240I-DB
designator U?
ORCA Series 3L FPGA: 2.5 V, Industrial Grade, 516 I/Os.; Published: 21-May-2003; LatestRevisionDate: 13-Apr-2006; LatestRevisionNote: IPC-7351 Footprint Added.; DatasheetVersion: Mar-2002; PackageVersion: pkg_32, Aug-2005; PackageReference: PQFP240; Publisher: Altium Limited; PackageDescription: 240-Pin Shrink Quad Flat Pack 0.5 mm Pitch; ComponentLink1Description: Manufacturer Link; ComponentLink1URL: http://www.latticesemi.com/products/fpga/orca/orca3/index.cfm; ComponentLink2Description: Datasheet; ComponentLink2URL: http://www.latticesemi.com/account/_download.cfm?AMID=3971; ComponentLink3Description: Lattice Login; ComponentLink3URL: http://www.latticesemi.com/account/login.cfm
footprint PQFP240_N (Shrink QFP, 240-Leads, Body 32x32mm, Pitch 0.5mm, IPC Medium Density)
footprint PQFP240_L (Shrink QFP, 240-Leads, Body 32x32mm, Pitch 0.5mm, IPC High Density)
footprint PQFP240_M (Shrink QFP, 240-Leads, Body 32x32mm, Pitch 0.5mm, IPC Low Density)
3D model OR3L165B-PQFP240 (240-Pin Shrink Quad Flat Pack 0.5 mm Pitch)
part A pins: 3 PL1D (io), 4 PL1A (io), 5 PL2D (io), 6 PL3D/A0/~{MPI_BE0} (io), 9 PL6D (io), 10 PL7D (io), 11 PL8D/A1/~{MPI_BE1} (io), 12 PL9A/A2 (io), 13 PL10D (io), 14 PL10B (io), 15 PL10A/A3 (io), 17 PL11D (io), 18 PL11A (io), 19 PL12D (io), 20 PL12A/A4 (io), 21 PL13D/A5 (io), 22 PL13A (io), 23 PL14D (io), 24 PL14A/A6 (io), 26 ECKL (in), 27 PL15A (io), 28 PL16C (io), 29 PL16A/A7/MPI_CLK (io), 31 PL17D (io), 33 PL18C (io), 34 PL18A/A8/MPI_RW (io), 36 PL19D/A9/~{MPI_ACK} (io), 37 PL19A (io), 38 PL20D (io), 39 PL20A/A10/~{MPI_BI} (io), 40 PL21D (io), 41 PL21A (io), 42 PL22D (io), 43 PL22A/A11/~{MPI_IRQ} (io), 45 PL23D/A12 (io), 46 PL23B (io), 47 PL24D (io), 48 PL24B/A13 (io), 49 PL24A (io), 50 PL25D (io), 51 PL26D (io), 52 PL27A/A14 (io), 54 PL29D (io), 55 PL30D (io), 56 PL30A/SECKLL (io), 57 PL32A/A15 (io), 59 CCLK (io), 63 PB1A/A16 (io), 64 PB3A (io), 66 PB4D (io), 68 PB5D/A17 (io), 69 PB6D (io), 70 PB7A (io), 71 PB7D (io), 72 PB8D (io), 73 PB9A (io), 74 PB9D (io), 75 PB10D (io), 77 PB11A (io), 78 PB11D (io), 79 PB12A (io), 80 PB12D (io), 81 PB13A (io), 82 PB13D (io), 83 PB14A (io), 84 PB14D (io), 86 PB15A (io), 87 PB15D (io), 88 PB16B (io), 89 PB16D (io), 91 ECKB (in), 92 PB17D (io), 93 PB18B (io), 94 PB18D (io), 97 PB19D (io), 98 PB20A (io), 99 PB20D (io), 100 PB21A/HDC (io), 101 PB21D (io), 102 PB22A (io), 103 PB22D (io), 105 PB23A/~{LDC} (io), 106 PB24D (io), 107 PB25A (io), 108 PB26D (io), 109 PB27A/~{INIT} (io), 110 PB27D (io), 111 PB28A (io), 112 PB28D (io), 114 PB29A (io), 115 PB30A (io), 116 PB30D (io), 117 PB32D (io), 119 DONE (io), 122 ~{RESET} (in), 123 ~{PRGM} (in), 124 PR32A/M0 (io), 125 PR31D (io), 126 PR30A (io), 127 PR29A (io), 129 PR28A (io), 130 PR27A (io), 131 PR26A (io), 132 PR26D (io), 133 PR25D/M1 (io), 134 PR24A (io), 136 PR23A (io), 138 PR22A/M2 (io), 139 PR22D (io), 140 PR21A (io), 141 PR21D (io), 142 PR20A/M3 (io), 143 PR20D (io), 144 PR19A (io), 145 PR19D (io), 147 PR18A (io), 148 PR18D (io), 149 PR17B (io), 150 PR17D (io), 152 ECKR (in), 153 PR16D (io), 154 PR15B (io), 155 PR15D (io), 158 PR14D (io), 159 PR13A (io), 160 PR13D (io), 161 PR12A/CS1 (io), 162 PR12D (io), 163 PR11A (io), 164 PR11D (io), 166 PR10A/~{CS0} (io), 167 PR10B (io), 168 PR9B (io), 169 PR9D (io), 170 PR8A/~{RD}/~{MPI_STRB} (io), 171 PR7A (io), 172 PR6A (io), 173 PR5A (io), 175 PR4A/~{WR} (io), 176 PR3A (io), 177 PR2A (io), 178 PR1D (io), 180 ~{RD_CFG} (in), 184 PT32D/SECKUR (io), 185 PT31A (io), 186 PT30D (io), 187 PT30A/RDY/RCLK/MPI_ALE (io), 189 PT28D (io), 190 PT28C (io), 191 PT28A (io), 192 PT27D/D7 (io), 194 PT25D (io), 195 PT24D (io), 196 PT23D/D6 (io), 198 PT22D (io), 199 PT22A (io), 200 PT21D (io), 201 PT21A/D5 (io), 202 PT20D (io), 203 PT20A (io), 204 PT19D (io), 205 PT19A/D4 (io), 207 ECKT (in), 208 PT18B (io), 209 PT17D (io), 210 PT17A/D3 (io), 212 PT16D (io), 213 PT16C (io), 215 PT15A/D2 (io), 217 PT14D/D1 (io), 218 PT14A (io), 219 PT13D (io), 220 PT13A/D0/DIN (io), 221 PT12D (io), 222 PT12A (io), 223 PT11D (io), 224 PT11A/DOUT (io), 226 PT10D (io), 227 PT9A (io), 228 PT8A (io), 229 PT7A/TDI (io), 230 PT6D (io), 231 PT6A (io), 232 PT5D (io), 233 PT5A/TMS (io), 235 PT4A (io), 236 PT3A (io), 237 PT2D (io), 238 PT1A/TCK (io), 240 RD_DATA/TDO (out)
part B pins: 1 VSS (power), 2 VDD (power), 7 VSS (power), 8 VDD2 (power), 16 VDD (power), 25 VSS (power), 30 VDD (power), 32 VDD2 (power), 35 VSS (power), 44 VDD (power), 53 VSS (power), 58 VSS (power), 60 VDD (power), 61 VSS (power), 62 VSS (power), 65 VDD2 (power), 67 VSS (power), 76 VDD (power), 85 VSS (power), 90 VSS (power), 95 VSS (power), 96 VDD2 (power), 104 VDD (power), 113 VSS (power), 118 VSS (power), 120 VDD (power), 121 VSS (power), 128 VSS (power), 135 VDD2 (power), 137 VDD (power), 146 VSS (power), 151 VDD (power), 156 VSS (power), 157 VDD2 (power), 165 VDD (power), 174 VSS (power), 179 VSS (power), 181 VSS (power), 182 VDD (power), 183 VSS (power), 188 VSS (power), 193 VDD2 (power), 197 VDD (power), 206 VSS (power), 211 VSS (power), 214 VDD2 (power), 216 VSS (power), 225 VDD (power), 234 VSS (power), 239 VSS (power)

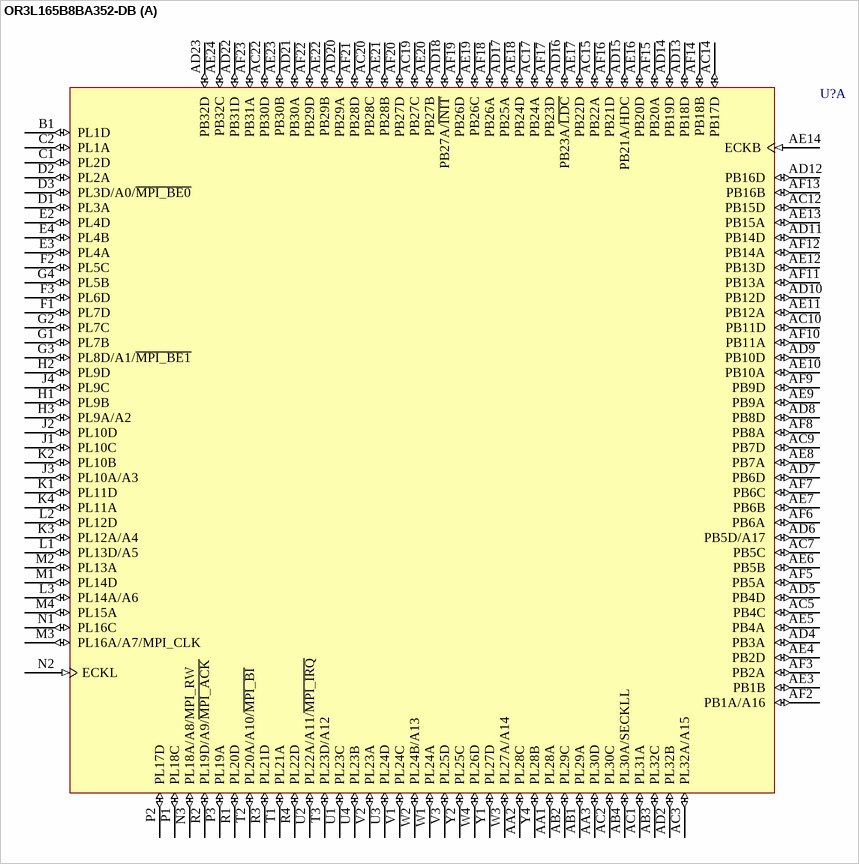
[diagram p30: symbol OR3L165B8BA352-DB]

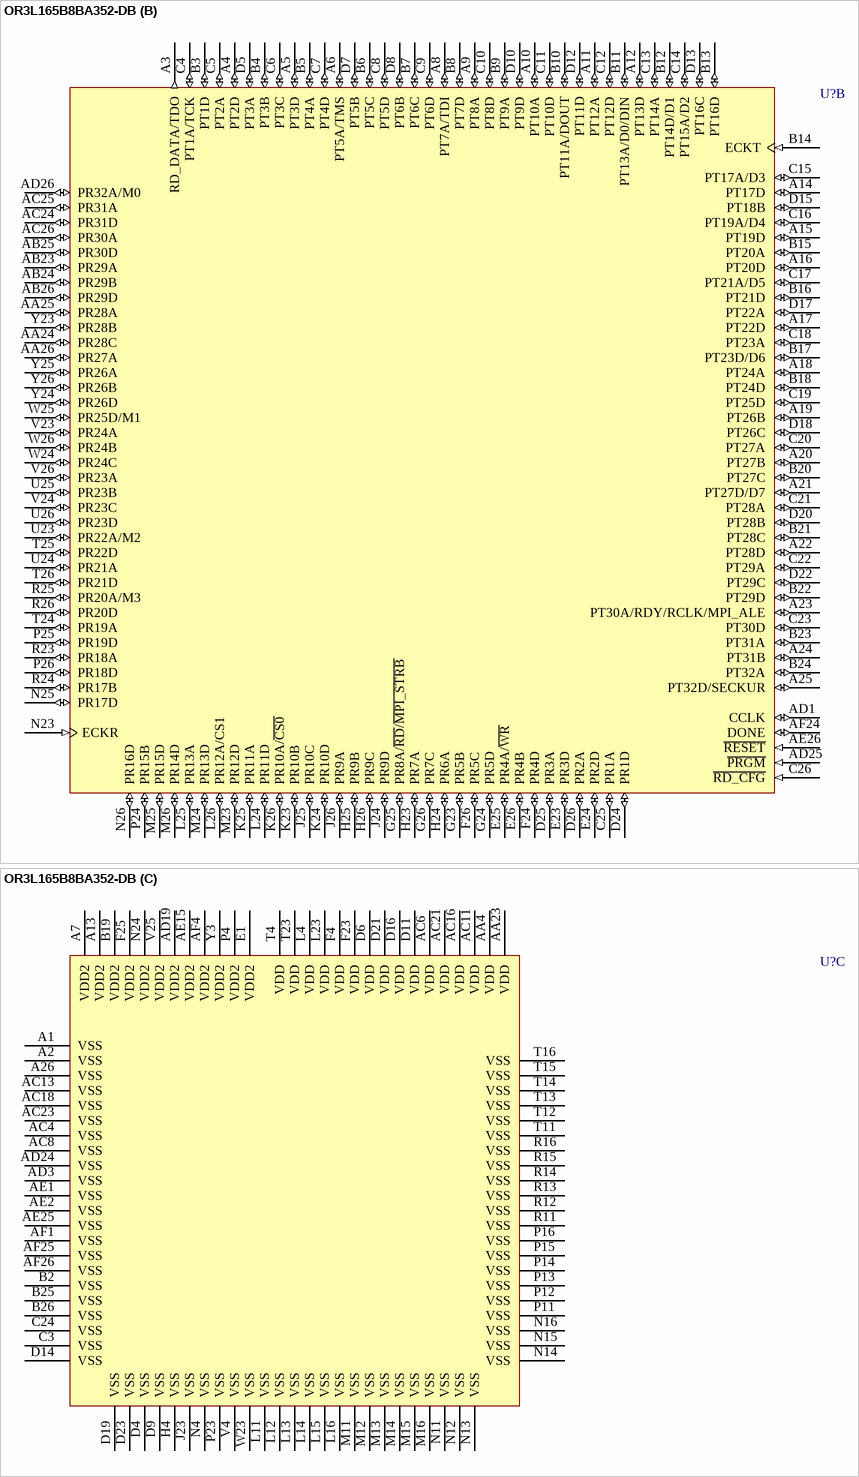
[diagram p31: symbol OR3L165B8BA352-DB]

## OR3L165B8BA352-DB
designator U?
ORCA Series 3L FPGA: 2.5 V, Commercial Grade, 516 I/Os.; Published: 21-May-2003; LatestRevisionDate: 13-Apr-2006; LatestRevisionNote: IPC-7351 Footprint Added.; DatasheetVersion: Mar-2002; PackageVersion: pkg_32, Aug-2005; PackageReference: BGA388; Publisher: Altium Limited; PackageDescription: 388-Ball Ball Grid Array (BGA388); ComponentLink1Description: Manufacturer Link; ComponentLink1URL: http://www.latticesemi.com/products/fpga/orca/orca3/index.cfm; ComponentLink2Description: Datasheet; ComponentLink2URL: http://www.latticesemi.com/account/_download.cfm?AMID=3971; ComponentLink3Description: Lattice Login; ComponentLink3URL: http://www.latticesemi.com/account/login.cfm
footprint BGA388 (BGA, 388-Leads, Body 35x35mm, Pitch 1.27mm)
3D model OR3L165B-BGA388 (388-Ball Ball Grid Array (BGA388))
part A pins: AA1 PL28A (io), AA2 PL28C (io), AA3 PL30D (io), AB1 PL29A (io), AB2 PL29C (io), AB3 PL32C (io), AB4 PL30A/SECKLL (io), AC1 PL31A (io), AC2 PL30C (io), AC3 PL32A/A15 (io), AC5 PB4C (io), AC7 PB5C (io), AC9 PB7D (io), AC10 PB11D (io), AC12 PB15D (io), AC14 PB17D (io), AC15 PB22A (io), AC17 PB24A (io), AC19 PB27C (io), AC20 PB28C (io), AC22 PB30D (io), AD2 PL32B (io), AD4 PB3A (io), AD5 PB4D (io), AD6 PB5D/A17 (io), AD7 PB6D (io), AD8 PB8D (io), AD9 PB10D (io), AD10 PB12D (io), AD11 PB14D (io), AD12 PB16D (io), AD13 PB18D (io), AD14 PB19D (io), AD15 PB21A/HDC (io), AD16 PB23A/~{LDC} (io), AD17 PB25A (io), AD18 PB27A/~{INIT} (io), AD20 PB29A (io), AD21 PB30A (io), AD22 PB31D (io), AD23 PB32D (io), AE3 PB1B (io), AE4 PB2D (io), AE5 PB4A (io), AE6 PB5B (io), AE7 PB6B (io), AE8 PB7A (io), AE9 PB9A (io), AE10 PB10A (io), AE11 PB12A (io), AE12 PB13D (io), AE13 PB15A (io), AE14 ECKB (in), AE16 PB20D (io), AE17 PB22D (io), AE18 PB24D (io), AE19 PB26C (io), AE20 PB27B (io), AE21 PB28B (io), AE22 PB29B (io), AE23 PB30B (io), AE24 PB32C (io), AF2 PB1A/A16 (io), AF3 PB2A (io), AF5 PB5A (io), AF6 PB6A (io), AF7 PB6C (io), AF8 PB8A (io), AF9 PB9D (io), AF10 PB11A (io), AF11 PB13A (io), AF12 PB14A (io), AF13 PB16B (io), AF14 PB18B (io), AF15 PB20A (io), AF16 PB21D (io), AF17 PB23D (io), AF18 PB26A (io), AF19 PB26D (io), AF20 PB27D (io), AF21 PB28D (io), AF22 PB29D (io), AF23 PB31A (io), B1 PL1D (io), C1 PL2D (io), C2 PL1A (io), D1 PL3A (io), D2 PL2A (io), D3 PL3D/A0/~{MPI_BE0} (io), E2 PL4D (io), E3 PL4A (io), E4 PL4B (io), F1 PL7D (io), F2 PL5C (io), F3 PL6D (io), G1 PL7B (io), G2 PL7C (io), G3 PL8D/A1/~{MPI_BE1} (io), G4 PL5B (io), H1 PL9B (io), H2 PL9D (io), H3 PL9A/A2 (io), J1 PL10C (io), J2 PL10D (io), J3 PL10A/A3 (io), J4 PL9C (io), K1 PL11D (io), K2 PL10B (io), K3 PL12A/A4 (io), K4 PL11A (io), L1 PL13D/A5 (io), L2 PL12D (io), L3 PL14A/A6 (io), M1 PL14D (io), M2 PL13A (io), M3 PL16A/A7/MPI_CLK (io), M4 PL15A (io), N1 PL16C (io), N2 ECKL (in), N3 PL18A/A8/MPI_RW (io), P1 PL18C (io), P2 PL17D (io), P3 PL19A (io), R1 PL20D (io), R2 PL19D/A9/~{MPI_ACK} (io), R3 PL21D (io), R4 PL22D (io), T1 PL21A (io), T2 PL20A/A10/~{MPI_BI} (io), T3 PL23D/A12 (io), U1 PL23C (io), U2 PL22A/A11/~{MPI_IRQ} (io), U3 PL24D (io), U4 PL23B (io), V1 PL24C (io), V2 PL23A (io), V3 PL25D (io), W1 PL24A (io), W2 PL24B/A13 (io), W3 PL27A/A14 (io), W4 PL26D (io), Y1 PL27D (io), Y2 PL25C (io), Y4 PL28B (io)
part B pins: A3 RD_DATA/TDO (out), A4 PT2D (io), A5 PT3D (io), A6 PT5A/TMS (io), A8 PT7A/TDI (io), A9 PT8A (io), A10 PT10A (io), A11 PT12A (io), A12 PT13D (io), A14 PT17D (io), A15 PT19D (io), A16 PT20D (io), A17 PT22D (io), A18 PT24A (io), A19 PT26B (io), A20 PT27B (io), A21 PT27D/D7 (io), A22 PT28D (io), A23 PT30A/RDY/RCLK/MPI_ALE (io), A24 PT31B (io), A25 PT32D/SECKUR (io), AA24 PR28C (io), AA25 PR28A (io), AA26 PR27A (io), AB23 PR29A (io), AB24 PR29B (io), AB25 PR30D (io), AB26 PR29D (io), AC24 PR31D (io), AC25 PR31A (io), AC26 PR30A (io), AD1 CCLK (io), AD25 ~{PRGM} (in), AD26 PR32A/M0 (io), AE26 ~{RESET} (in), AF24 DONE (io), B3 PT1D (io), B4 PT3B (io), B5 PT4A (io), B6 PT5C (io), B7 PT6C (io), B8 PT7D (io), B9 PT9A (io), B10 PT11A/DOUT (io), B11 PT13A/D0/DIN (io), B12 PT14D/D1 (io), B13 PT16D (io), B14 ECKT (in), B15 PT20A (io), B16 PT21D (io), B17 PT23D/D6 (io), B18 PT24D (io), B20 PT27C (io), B21 PT28C (io), B22 PT29D (io), B23 PT31A (io), B24 PT32A (io), C4 PT1A/TCK (io), C5 PT2A (io), C6 PT3C (io), C7 PT4D (io), C8 PT5D (io), C9 PT6D (io), C10 PT8D (io), C11 PT10D (io), C12 PT12D (io), C13 PT14A (io), C14 PT15A/D2 (io), C15 PT17A/D3 (io), C16 PT19A/D4 (io), C17 PT21A/D5 (io), C18 PT23A (io), C19 PT25D (io), C20 PT27A (io), C21 PT28A (io), C22 PT29A (io), C23 PT30D (io), C25 PR1A (io), C26 ~{RD_CFG} (in), D5 PT3A (io), D7 PT5B (io), D8 PT6B (io), D10 PT9D (io), D12 PT11D (io), D13 PT16C (io), D15 PT18B (io), D17 PT22A (io), D18 PT26C (io), D20 PT28B (io), D22 PT29C (io), D24 PR1D (io), D25 PR3A (io), D26 PR2A (io), E23 PR3D (io), E24 PR2D (io), E25 PR4A/~{WR} (io), E26 PR4B (io), F24 PR4D (io), F26 PR5C (io), G23 PR5B (io), G24 PR5D (io), G25 PR8A/~{RD}/~{MPI_STRB} (io), G26 PR7C (io), H23 PR7A (io), H24 PR6A (io), H25 PR9B (io), H26 PR9C (io), J24 PR9D (io), J25 PR10C (io), J26 PR9A (io), K23 PR10B (io), K24 PR10D (io), K25 PR11A (io), K26 PR10A/~{CS0} (io), L24 PR11D (io), L25 PR13A (io), L26 PR12A/CS1 (io), M23 PR12D (io), M24 PR13D (io), M25 PR15D (io), M26 PR14D (io), N23 ECKR (in), N25 PR17D (io), N26 PR16D (io), P24 PR15B (io), P25 PR19D (io), P26 PR18D (io), R23 PR18A (io), R24 PR17B (io), R25 PR20A/M3 (io), R26 PR20D (io), T24 PR19A (io), T25 PR22D (io), T26 PR21D (io), U23 PR22A/M2 (io), U24 PR21A (io), U25 PR23B (io), U26 PR23D (io), V23 PR24A (io), V24 PR23C (io), V26 PR23A (io), W24 PR24C (io), W25 PR25D/M1 (io), W26 PR24B (io), Y23 PR28B (io), Y24 PR26D (io), Y25 PR26A (io), Y26 PR26B (io)
part C pins: A1 VSS (power), A2 VSS (power), A7 VDD2 (power), A13 VDD2 (power), A26 VSS (power), AA4 VDD (power), AA23 VDD (power), AC4 VSS (power), AC6 VDD (power), AC8 VSS (power), AC11 VDD (power), AC13 VSS (power), AC16 VDD (power), AC18 VSS (power), AC21 VDD (power), AC23 VSS (power), AD3 VSS (power), AD19 VDD2 (power), AD24 VSS (power), AE1 VSS (power), AE2 VSS (power), AE15 VDD2 (power), AE25 VSS (power), AF1 VSS (power), AF4 VDD2 (power), AF25 VSS (power), AF26 VSS (power), B2 VSS (power), B19 VDD2 (power), B25 VSS (power), B26 VSS (power), C3 VSS (power), C24 VSS (power), D4 VSS (power), D6 VDD (power), D9 VSS (power), D11 VDD (power), D14 VSS (power), D16 VDD (power), D19 VSS (power), D21 VDD (power), D23 VSS (power), E1 VDD2 (power), F4 VDD (power), F23 VDD (power), F25 VDD2 (power), H4 VSS (power), J23 VSS (power), L4 VDD (power), L11 VSS (power), L12 VSS (power), L13 VSS (power), L14 VSS (power), L15 VSS (power), L16 VSS (power), L23 VDD (power), M11 VSS (power), M12 VSS (power), M13 VSS (power), M14 VSS (power), M15 VSS (power), M16 VSS (power), N4 VSS (power), N11 VSS (power), N12 VSS (power), N13 VSS (power), N14 VSS (power), N15 VSS (power), N16 VSS (power), N24 VDD2 (power), P4 VDD2 (power), P11 VSS (power), P12 VSS (power), P13 VSS (power), P14 VSS (power), P15 VSS (power), P16 VSS (power), P23 VSS (power), R11 VSS (power), R12 VSS (power), R13 VSS (power), R14 VSS (power), R15 VSS (power), R16 VSS (power), T4 VDD (power), T11 VSS (power), T12 VSS (power), T13 VSS (power), T14 VSS (power), T15 VSS (power), T16 VSS (power), T23 VDD (power), V4 VSS (power), V25 VDD2 (power), W23 VSS (power), Y3 VDD2 (power)

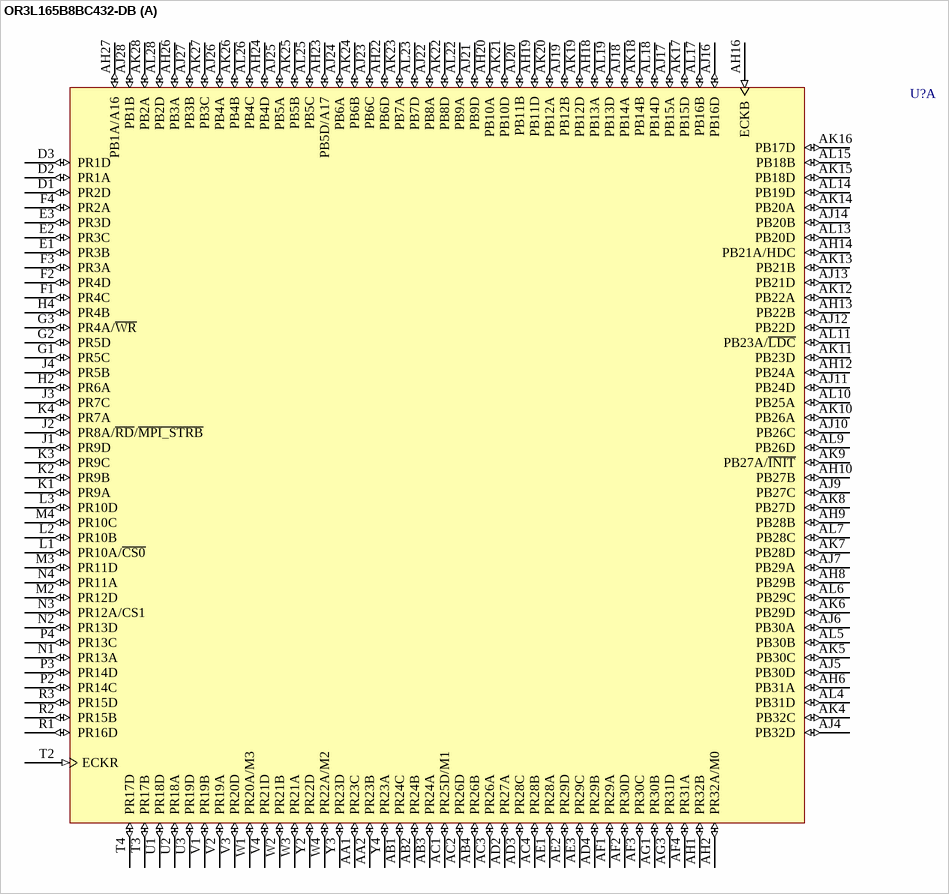
[diagram p32: symbol OR3L165B8BC432-DB]

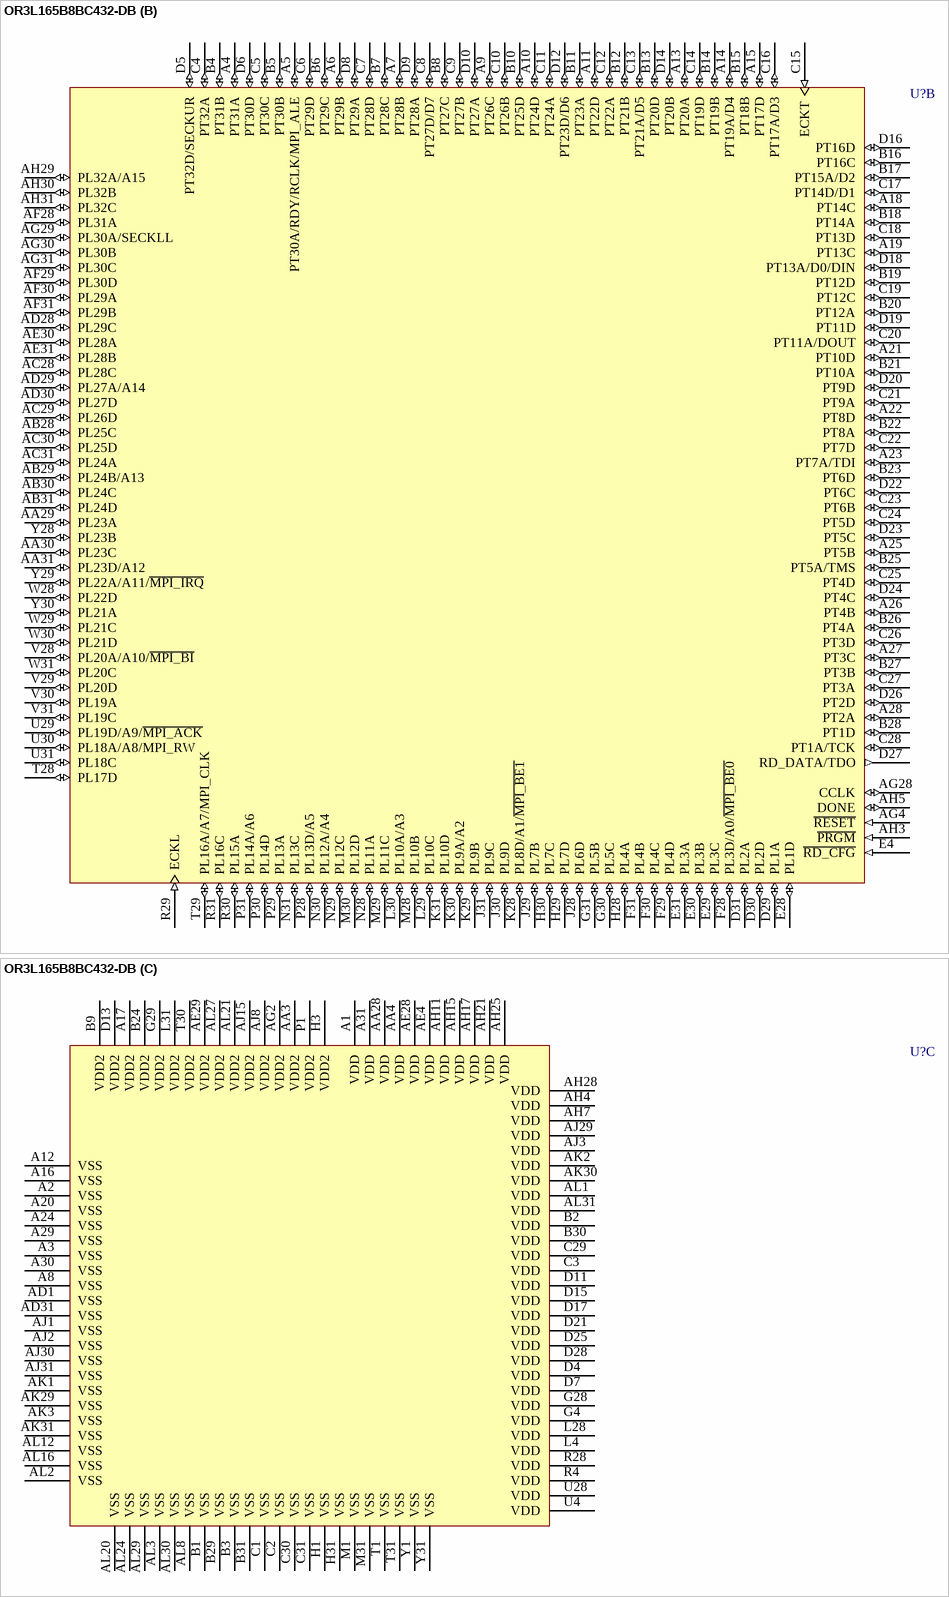
[diagram p33: symbol OR3L165B8BC432-DB]

## OR3L165B8BC432-DB
designator U?
ORCA Series 3L FPGA: 2.5 V, Commercial Grade, 516 I/Os.; Published: 21-May-2003; LatestRevisionDate: 13-Apr-2006; LatestRevisionNote: IPC-7351 Footprint Added.; DatasheetVersion: Mar-2002; PackageVersion: pkg_32, Aug-2005; PackageReference: SBGA432; Publisher: Altium Limited; PackageDescription: 432-Ball Super Ball Grid Array (SBGA432); ComponentLink1Description: Manufacturer Link; ComponentLink1URL: http://www.latticesemi.com/products/fpga/orca/orca3/index.cfm; ComponentLink2Description: Datasheet; ComponentLink2URL: http://www.latticesemi.com/account/_download.cfm?AMID=3971; ComponentLink3Description: Lattice Login; ComponentLink3URL: http://www.latticesemi.com/account/login.cfm
footprint SBGA432 (BGA, 432-Leads, Body 40x40mm, Pitch 1.27mm)
3D model OR3L165B-SBGA432 (432-Ball Super Ball Grid Array (SBGA432))
part A pins: AA1 PR23C (io), AA2 PR23B (io), AB1 PR24C (io), AB2 PR24B (io), AB3 PR24A (io), AB4 PR26B (io), AC1 PR25D/M1 (io), AC2 PR26D (io), AC3 PR26A (io), AC4 PR28B (io), AD2 PR27A (io), AD3 PR28C (io), AD4 PR29B (io), AE1 PR28A (io), AE2 PR29D (io), AE3 PR29C (io), AF1 PR29A (io), AF2 PR30D (io), AF3 PR30C (io), AF4 PR31A (io), AG1 PR30B (io), AG3 PR31D (io), AH1 PR32B (io), AH2 PR32A/M0 (io), AH6 PB31A (io), AH8 PB29B (io), AH9 PB28B (io), AH10 PB27B (io), AH12 PB24A (io), AH13 PB22B (io), AH14 PB21A/HDC (io), AH16 ECKB (in), AH18 PB13A (io), AH19 PB11D (io), AH20 PB10A (io), AH22 PB6D (io), AH23 PB5D/A17 (io), AH24 PB4D (io), AH26 PB3A (io), AH27 PB1A/A16 (io), AJ4 PB32D (io), AJ5 PB30D (io), AJ6 PB30A (io), AJ7 PB29A (io), AJ9 PB27C (io), AJ10 PB26C (io), AJ11 PB24D (io), AJ12 PB22D (io), AJ13 PB21D (io), AJ14 PB20B (io), AJ16 PB16D (io), AJ17 PB15A (io), AJ18 PB14A (io), AJ19 PB12B (io), AJ20 PB11B (io), AJ21 PB9D (io), AJ22 PB8A (io), AJ23 PB6C (io), AJ24 PB6A (io), AJ25 PB5A (io), AJ26 PB4A (io), AJ27 PB3B (io), AJ28 PB1B (io), AK4 PB32C (io), AK5 PB30C (io), AK6 PB29D (io), AK7 PB28D (io), AK8 PB27D (io), AK9 PB27A/~{INIT} (io), AK10 PB26A (io), AK11 PB23D (io), AK12 PB22A (io), AK13 PB21B (io), AK14 PB20A (io), AK15 PB18D (io), AK16 PB17D (io), AK17 PB15D (io), AK18 PB14B (io), AK19 PB12D (io), AK20 PB12A (io), AK21 PB10D (io), AK22 PB8D (io), AK23 PB7A (io), AK24 PB6B (io), AK25 PB5B (io), AK26 PB4B (io), AK27 PB3C (io), AK28 PB2A (io), AL4 PB31D (io), AL5 PB30B (io), AL6 PB29C (io), AL7 PB28C (io), AL9 PB26D (io), AL10 PB25A (io), AL11 PB23A/~{LDC} (io), AL13 PB20D (io), AL14 PB19D (io), AL15 PB18B (io), AL17 PB16B (io), AL18 PB14D (io), AL19 PB13D (io), AL22 PB9A (io), AL23 PB7D (io), AL25 PB5C (io), AL26 PB4C (io), AL28 PB2D (io), D1 PR2D (io), D2 PR1A (io), D3 PR1D (io), E1 PR3B (io), E2 PR3C (io), E3 PR3D (io), F1 PR4C (io), F2 PR4D (io), F3 PR3A (io), F4 PR2A (io), G1 PR5C (io), G2 PR5D (io), G3 PR4A/~{WR} (io), H2 PR6A (io), H4 PR4B (io), J1 PR9D (io), J2 PR8A/~{RD}/~{MPI_STRB} (io), J3 PR7C (io), J4 PR5B (io), K1 PR9A (io), K2 PR9B (io), K3 PR9C (io), K4 PR7A (io), L1 PR10A/~{CS0} (io), L2 PR10B (io), L3 PR10D (io), M2 PR12D (io), M3 PR11D (io), M4 PR10C (io), N1 PR13A (io), N2 PR13D (io), N3 PR12A/CS1 (io), N4 PR11A (io), P2 PR14C (io), P3 PR14D (io), P4 PR13C (io), R1 PR16D (io), R2 PR15B (io), R3 PR15D (io), T2 ECKR (in), T3 PR17B (io), T4 PR17D (io), U1 PR18D (io), U2 PR18A (io), U3 PR19D (io), V1 PR19B (io), V2 PR19A (io), V3 PR20D (io), V4 PR21D (io), W1 PR20A/M3 (io), W2 PR21B (io), W3 PR21A (io), W4 PR22A/M2 (io), Y2 PR22D (io), Y3 PR23D (io), Y4 PR23A (io)
part B pins: A4 PT31A (io), A5 PT30A/RDY/RCLK/MPI_ALE (io), A6 PT29B (io), A7 PT28B (io), A9 PT26C (io), A10 PT24D (io), A11 PT22D (io), A13 PT20A (io), A14 PT19A/D4 (io), A15 PT17D (io), A18 PT14C (io), A19 PT13C (io), A21 PT10D (io), A22 PT8D (io), A23 PT7A/TDI (io), A25 PT5B (io), A26 PT4B (io), A27 PT3C (io), A28 PT2A (io), AA29 PL23A (io), AA30 PL23C (io), AA31 PL23D/A12 (io), AB28 PL25C (io), AB29 PL24B/A13 (io), AB30 PL24C (io), AB31 PL24D (io), AC28 PL28C (io), AC29 PL26D (io), AC30 PL25D (io), AC31 PL24A (io), AD28 PL29C (io), AD29 PL27A/A14 (io), AD30 PL27D (io), AE30 PL28A (io), AE31 PL28B (io), AF28 PL31A (io), AF29 PL30D (io), AF30 PL29A (io), AF31 PL29B (io), AG4 ~{RESET} (in), AG28 CCLK (io), AG29 PL30A/SECKLL (io), AG30 PL30B (io), AG31 PL30C (io), AH3 ~{PRGM} (in), AH5 DONE (io), AH29 PL32A/A15 (io), AH30 PL32B (io), AH31 PL32C (io), B4 PT31B (io), B5 PT30B (io), B6 PT29C (io), B7 PT28C (io), B8 PT27C (io), B10 PT25D (io), B11 PT23A (io), B12 PT21B (io), B13 PT20D (io), B14 PT19B (io), B15 PT18B (io), B16 PT16C (io), B17 PT15A/D2 (io), B18 PT14A (io), B19 PT12D (io), B20 PT12A (io), B21 PT10A (io), B22 PT8A (io), B23 PT6D (io), B25 PT5A/TMS (io), B26 PT4A (io), B27 PT3B (io), B28 PT1D (io), C4 PT32A (io), C5 PT30C (io), C6 PT29D (io), C7 PT28D (io), C8 PT27D/D7 (io), C9 PT27B (io), C10 PT26B (io), C11 PT24A (io), C12 PT22A (io), C13 PT21A/D5 (io), C14 PT19D (io), C15 ECKT (in), C16 PT17A/D3 (io), C17 PT14D/D1 (io), C18 PT13D (io), C19 PT12C (io), C20 PT11A/DOUT (io), C21 PT9A (io), C22 PT7D (io), C23 PT6B (io), C24 PT5D (io), C25 PT4D (io), C26 PT3D (io), C27 PT3A (io), C28 PT1A/TCK (io), D5 PT32D/SECKUR (io), D6 PT30D (io), D8 PT29A (io), D9 PT28A (io), D10 PT27A (io), D12 PT23D/D6 (io), D14 PT20B (io), D16 PT16D (io), D18 PT13A/D0/DIN (io), D19 PT11D (io), D20 PT9D (io), D22 PT6C (io), D23 PT5C (io), D24 PT4C (io), D26 PT2D (io), D27 RD_DATA/TDO (out), D29 PL1A (io), D30 PL2D (io), D31 PL2A (io), E4 ~{RD_CFG} (in), E28 PL1D (io), E29 PL3C (io), E30 PL3B (io), E31 PL3A (io), F28 PL3D/A0/~{MPI_BE0} (io), F29 PL4D (io), F30 PL4C (io), F31 PL4B (io), G30 PL5C (io), G31 PL5B (io), H28 PL4A (io), H29 PL7D (io), H30 PL7C (io), J28 PL6D (io), J29 PL7B (io), J30 PL9D (io), J31 PL9C (io), K28 PL8D/A1/~{MPI_BE1} (io), K29 PL9B (io), K30 PL9A/A2 (io), K31 PL10D (io), L29 PL10C (io), L30 PL10A/A3 (io), M28 PL10B (io), M29 PL11C (io), M30 PL12D (io), N28 PL11A (io), N29 PL12C (io), N30 PL12A/A4 (io), N31 PL13C (io), P28 PL13D/A5 (io), P29 PL13A (io), P30 PL14D (io), P31 PL14A/A6 (io), R29 ECKL (in), R30 PL15A (io), R31 PL16C (io), T28 PL17D (io), T29 PL16A/A7/MPI_CLK (io), U29 PL19D/A9/~{MPI_ACK} (io), U30 PL18A/A8/MPI_RW (io), U31 PL18C (io), V28 PL20A/A10/~{MPI_BI} (io), V29 PL20D (io), V30 PL19A (io), V31 PL19C (io), W28 PL22D (io), W29 PL21C (io), W30 PL21D (io), W31 PL20C (io), Y28 PL23B (io), Y29 PL22A/A11/~{MPI_IRQ} (io), Y30 PL21A (io)
part C pins: A1 VDD (power), A2 VSS (power), A3 VSS (power), A8 VSS (power), A12 VSS (power), A16 VSS (power), A17 VDD2 (power), A20 VSS (power), A24 VSS (power), A29 VSS (power), A30 VSS (power), A31 VDD (power), AA3 VDD2 (power), AA4 VDD (power), AA28 VDD (power), AD1 VSS (power), AD31 VSS (power), AE4 VDD (power), AE28 VDD (power), AE29 VDD2 (power), AG2 VDD2 (power), AH4 VDD (power), AH7 VDD (power), AH11 VDD (power), AH15 VDD (power), AH17 VDD (power), AH21 VDD (power), AH25 VDD (power), AH28 VDD (power), AJ1 VSS (power), AJ2 VSS (power), AJ3 VDD (power), AJ8 VDD2 (power), AJ15 VDD2 (power), AJ29 VDD (power), AJ30 VSS (power), AJ31 VSS (power), AK1 VSS (power), AK2 VDD (power), AK3 VSS (power), AK29 VSS (power), AK30 VDD (power), AK31 VSS (power), AL1 VDD (power), AL2 VSS (power), AL3 VSS (power), AL8 VSS (power), AL12 VSS (power), AL16 VSS (power), AL20 VSS (power), AL21 VDD2 (power), AL24 VSS (power), AL27 VDD2 (power), AL29 VSS (power), AL30 VSS (power), AL31 VDD (power), B1 VSS (power), B2 VDD (power), B3 VSS (power), B9 VDD2 (power), B24 VDD2 (power), B29 VSS (power), B30 VDD (power), B31 VSS (power), C1 VSS (power), C2 VSS (power), C3 VDD (power), C29 VDD (power), C30 VSS (power), C31 VSS (power), D4 VDD (power), D7 VDD (power), D11 VDD (power), D13 VDD2 (power), D15 VDD (power), D17 VDD (power), D21 VDD (power), D25 VDD (power), D28 VDD (power), G4 VDD (power), G28 VDD (power), G29 VDD2 (power), H1 VSS (power), H3 VDD2 (power), H31 VSS (power), L4 VDD (power), L28 VDD (power), L31 VDD2 (power), M1 VSS (power), M31 VSS (power), P1 VDD2 (power), R4 VDD (power), R28 VDD (power), T1 VSS (power), T30 VDD2 (power), T31 VSS (power), U4 VDD (power), U28 VDD (power), Y1 VSS (power), Y31 VSS (power)

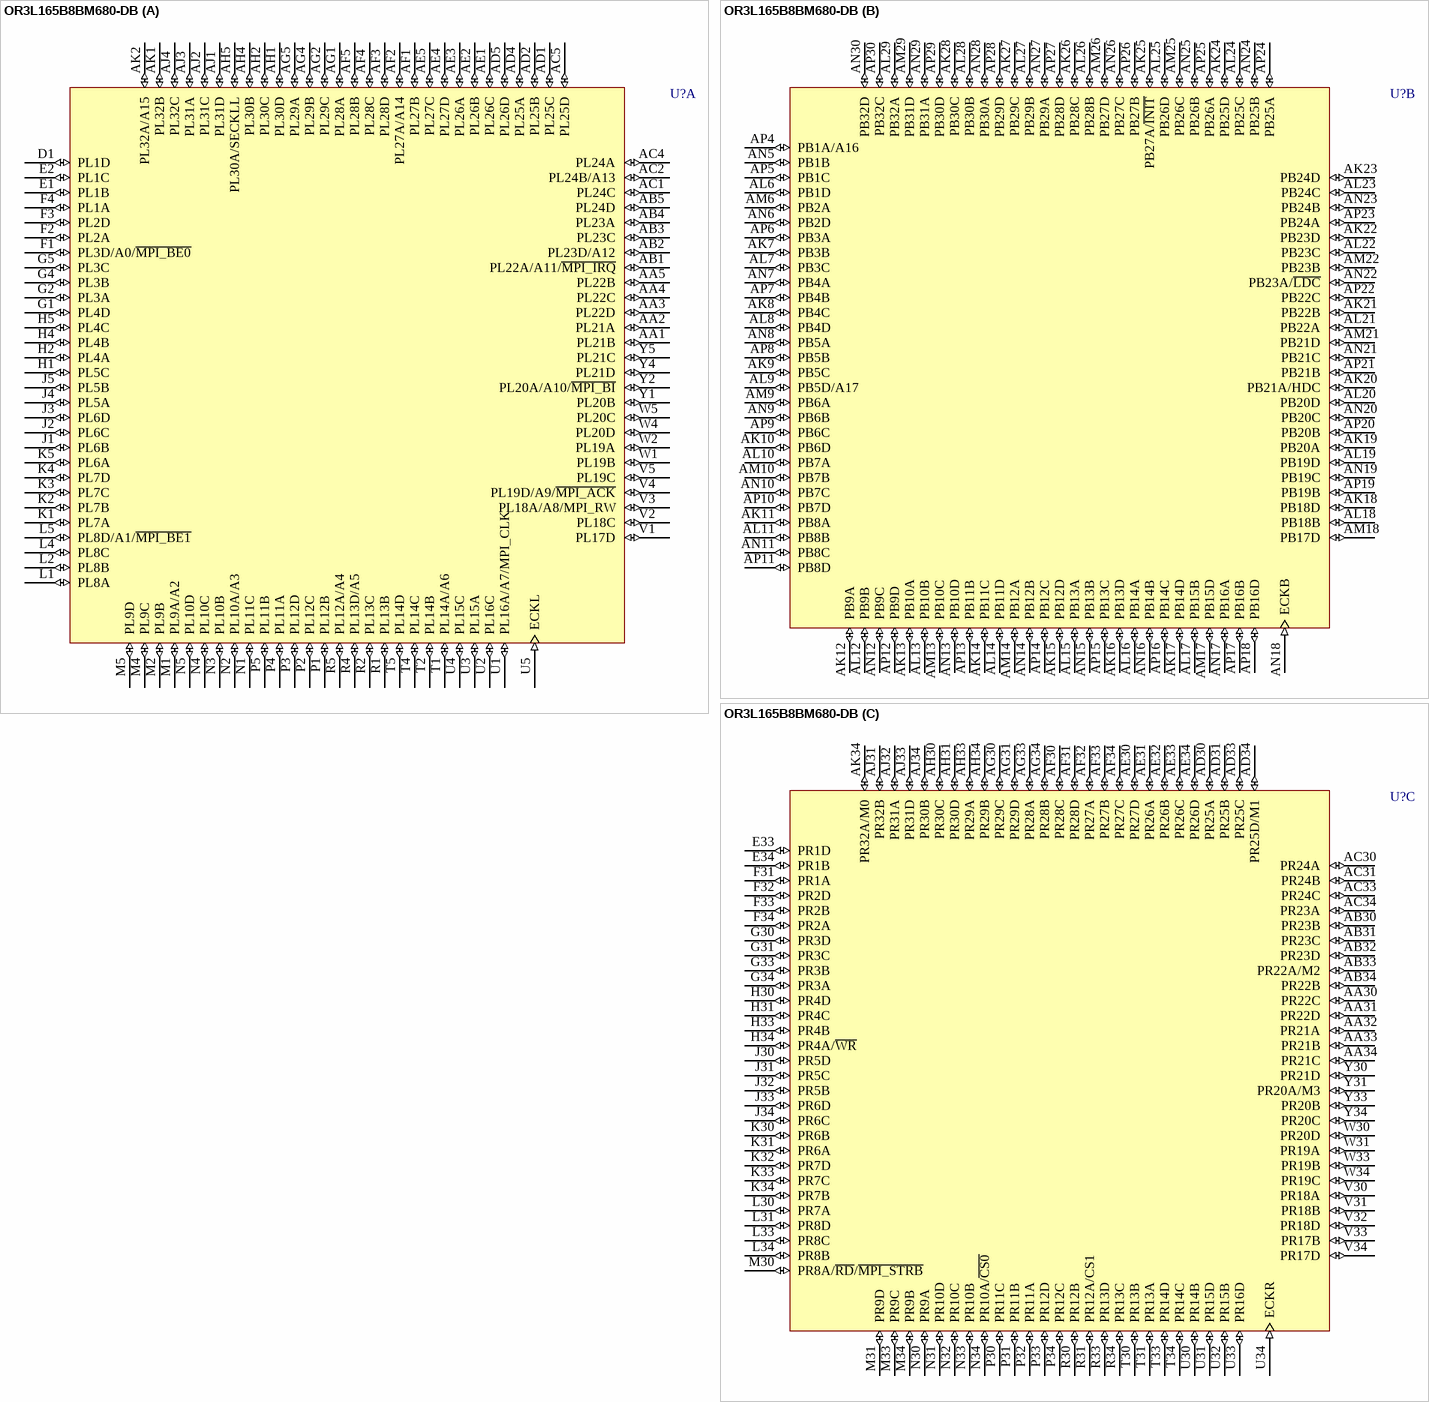
[diagram p34: symbol OR3L165B8BM680-DB]

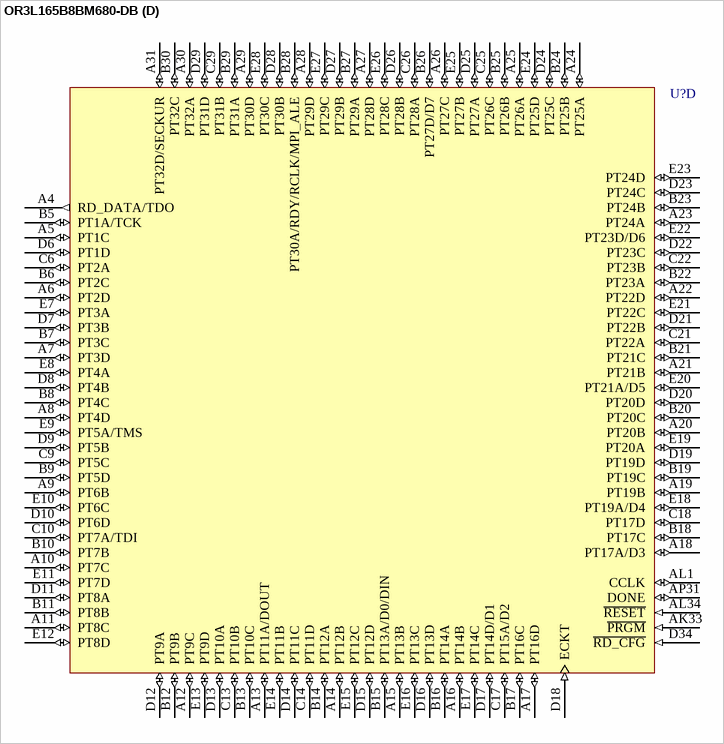
[diagram p35: symbol OR3L165B8BM680-DB]

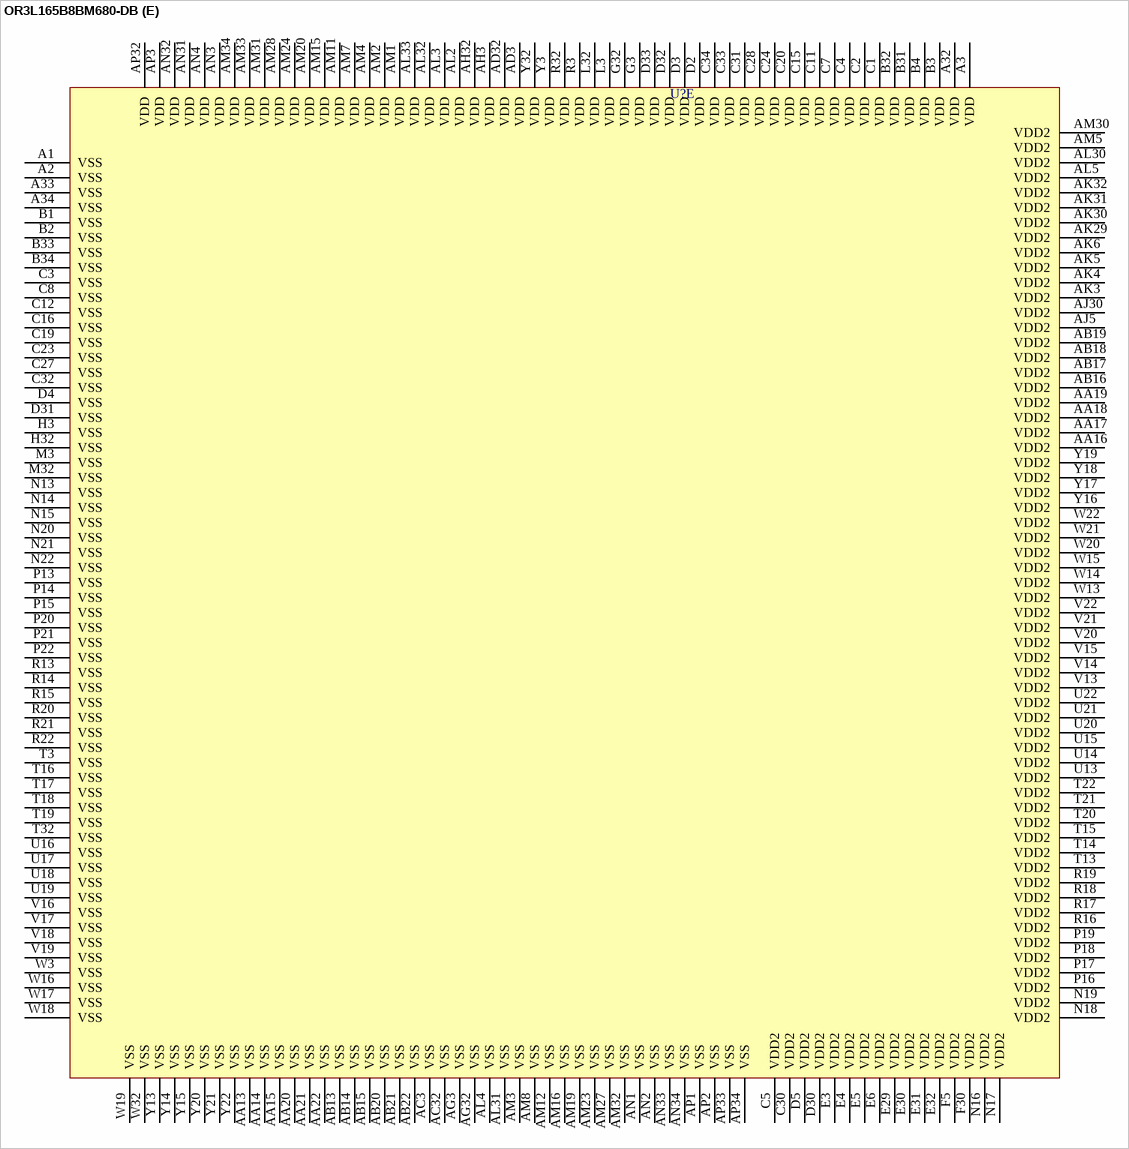
[diagram p36: symbol OR3L165B8BM680-DB]